# Altium schematic symbol library GL850G-SCH-Library.SchLib: 89 symbols (part 1 of 2)
Pins are listed as number, name and electrical type; pins without a type are passive.

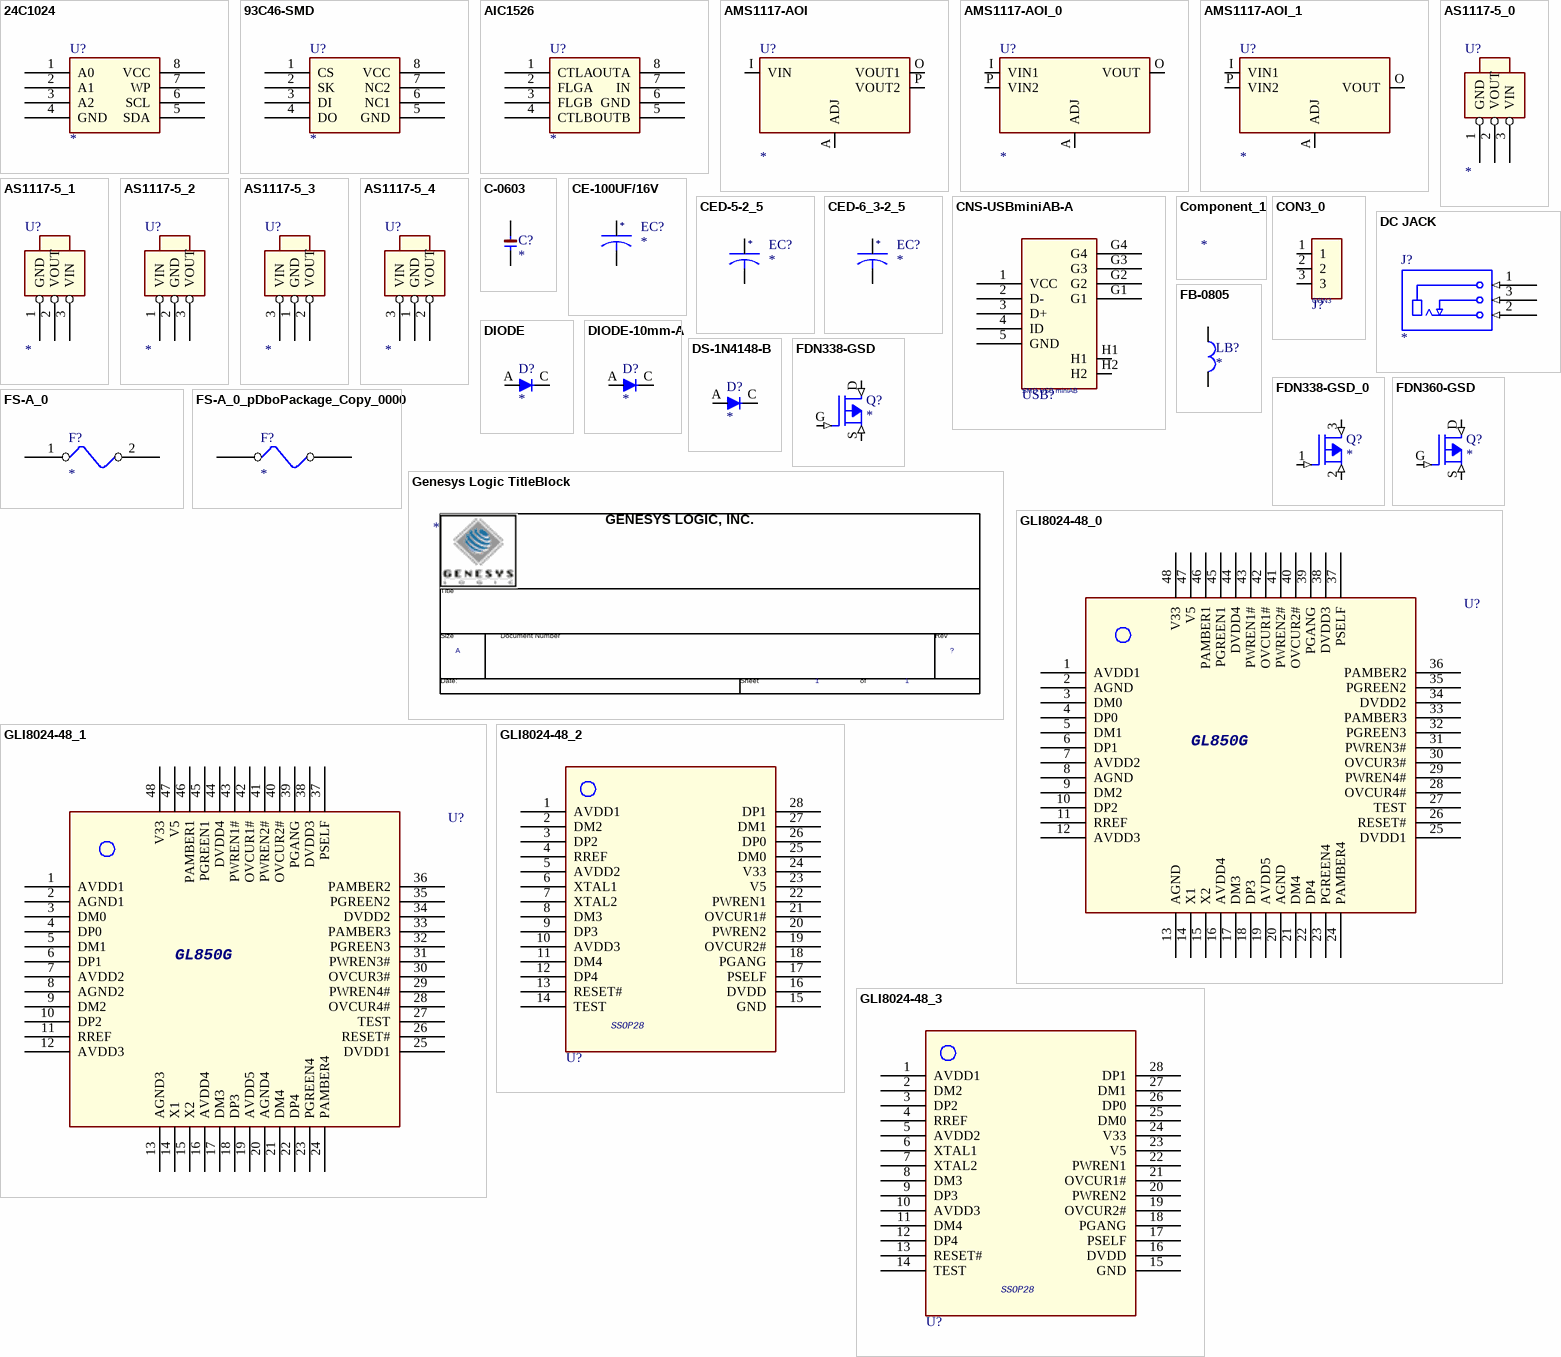
[diagram p0: symbols 24C1024 to GLI8024-48_3]

## 24C1024
designator U?
pins: 1 A0, 2 A1, 3 A2, 4 GND (power), 5 SDA, 6 SCL, 7 WP, 8 VCC (power)

## 93C46-SMD
designator U?
footprint I-SOP8-1_27A
pins: 1 CS, 2 SK, 3 DI, 4 DO, 5 GND, 6 NC1, 7 NC2, 8 VCC

## AIC1526
designator U?
footprint I-SOP8-1_27A
pins: 1 CTLA, 2 FLGA, 3 FLGB, 4 CTLB, 5 OUTB, 6 GND, 7 IN, 8 OUTA

## AMS1117-AOI
designator U?
footprint I-SOT223-AOI-A
pins: A ADJ, I VIN, O VOUT1, P VOUT2

## AMS1117-AOI_0
designator U?
footprint I-SOT223-AOI-A
pins: A ADJ, I VIN1, O VOUT, P VIN2

## AMS1117-AOI_1
designator U?
footprint I-SOT223-AOI-A
pins: A ADJ, I VIN1, O VOUT, P VIN2

## AS1117-5_0
designator U?
pins: 1 GND, 2 VOUT, 3 VIN

## AS1117-5_1
designator U?
pins: 1 GND, 2 VOUT, 3 VIN

## AS1117-5_2
designator U?
pins: 1 VIN, 2 GND, 3 VOUT

## AS1117-5_3
designator U?
pins: 1 GND, 2 VOUT, 3 VIN

## AS1117-5_4
designator U?
pins: 1 GND, 2 VOUT, 3 VIN

## C-0603
designator C?
footprint CCS-0603
pins: 1, 2

## CE-100UF/16V
designator EC?
footprint CED-6_3-2_5
pins: 1, 2
text: +

## CED-5-2_5
designator EC?
footprint CED-5-2_5
pins: 1, 2
text: +

## CED-6_3-2_5
designator EC?
footprint CED-6_3-2_5
pins: 1, 2
text: +

## CNS-USBminiAB-A
designator USB?, comment SMD USB miniAB
footprint CNS-USBminiAB-A
pins: 1 VCC, 2 D-, 3 D+, 4 ID, 5 GND, G1, G2, G3, G4, H1, H2

## Component_1
designator *  (value not drawn)

## CON3_0
designator J?, comment CON3
pins: 1, 2, 3

## DC JACK
designator J?
footprint CND-DCJ-A
pins: 1 1S (in), 2 3T (in), 3 2TS (in)

## DIODE
designator D?
pins: A 1, C 2

## DIODE-10mm-A
designator D?
footprint DD-10-A
pins: A 1, C 2

## DS-1N4148-B
designator D?
footprint DS-1N4148-B
pins: A 1, C 2

## FB-0805
designator LB?
footprint LBS-0805
pins: 1, 2

## FDN338-GSD
designator Q?
footprint T-SOT23-GSD-A
pins: D DRAIN (in), G GATE (in), S SOURCE (in)

## FDN338-GSD_0
designator Q?
footprint T-SOT23-GSD-A
pins: 1 GATE (in), 2 SOURCE (in), 3 DRAIN (in)

## FDN360-GSD
designator Q?
footprint T-SOT23-GSD-A
pins: D DRAIN (in), G GATE (in), S SOURCE (in)

## FS-A_0
designator F?
footprint FS-A
pins: 1, 2

## FS-A_0_pDboPackage_Copy_0000
designator F?
footprint FS-A
pins: 1, 2

## Genesys Logic TitleBlock
designator *  Page Size: A  Page Number: 1  (graphical)
Page Create Date: March  8, 1995; RevCode: ?; Page Count: 1
text: GENESYS LOGIC, INC.; Title; Size; Document Number; Rev; Date:; Sheet; of

## GLI8024-48_0
designator U?, comment GL850A-LQFP48  (value not drawn)
pins: 1 AVDD1, 2 AGND, 3 DM0, 4 DP0, 5 DM1, 6 DP1, 7 AVDD2, 8 AGND, 9 DM2, 10 DP2, 11 RREF, 12 AVDD3, 13 AGND, 14 X1, 15 X2, 16 AVDD4, 17 DM3, 18 DP3, 19 AVDD5, 20 AGND, 21 DM4, 22 DP4, 23 PGREEN4, 24 PAMBER4, 25 DVDD1, 26 RESET#, 27 TEST, 28 OVCUR4#, 29 PWREN4#, 30 OVCUR3#, 31 PWREN3#, 32 PGREEN3, 33 PAMBER3, 34 DVDD2, 35 PGREEN2, 36 PAMBER2, 37 PSELF, 38 DVDD3, 39 PGANG, 40 OVCUR2#, 41 PWREN2#, 42 OVCUR1#, 43 PWREN1#, 44 DVDD4, 45 PGREEN1, 46 PAMBER1, 47 V5, 48 V33
text: GL850G

## GLI8024-48_1
designator U?, comment GL850A-LQFP48  (value not drawn)
pins: 1 AVDD1, 2 AGND1, 3 DM0, 4 DP0, 5 DM1, 6 DP1, 7 AVDD2, 8 AGND2, 9 DM2, 10 DP2, 11 RREF, 12 AVDD3, 13 AGND3, 14 X1, 15 X2, 16 AVDD4, 17 DM3, 18 DP3, 19 AVDD5, 20 AGND4, 21 DM4, 22 DP4, 23 PGREEN4, 24 PAMBER4, 25 DVDD1, 26 RESET#, 27 TEST, 28 OVCUR4#, 29 PWREN4#, 30 OVCUR3#, 31 PWREN3#, 32 PGREEN3, 33 PAMBER3, 34 DVDD2, 35 PGREEN2, 36 PAMBER2, 37 PSELF, 38 DVDD3, 39 PGANG, 40 OVCUR2#, 41 PWREN2#, 42 OVCUR1#, 43 PWREN1#, 44 DVDD4, 45 PGREEN1, 46 PAMBER1, 47 V5, 48 V33
text: GL850G

## GLI8024-48_2
designator U?, comment GL850A-LQFP48  (value not drawn)
pins: 1 AVDD1, 2 DM2, 3 DP2, 4 RREF, 5 AVDD2, 6 XTAL1, 7 XTAL2, 8 DM3, 9 DP3, 10 AVDD3, 11 DM4, 12 DP4, 13 RESET#, 14 TEST, 15 GND, 16 DVDD, 17 PSELF, 18 PGANG, 19 OVCUR2#, 20 PWREN2, 21 OVCUR1#, 22 PWREN1, 23 V5, 24 V33, 25 DM0, 26 DP0, 27 DM1, 28 DP1
text: SSOP28

## GLI8024-48_3
designator U?, comment GL850A-LQFP48  (value not drawn)
pins: 1 AVDD1, 2 DM2, 3 DP2, 4 RREF, 5 AVDD2, 6 XTAL1, 7 XTAL2, 8 DM3, 9 DP3, 10 AVDD3, 11 DM4, 12 DP4, 13 RESET#, 14 TEST, 15 GND, 16 DVDD, 17 PSELF, 18 PGANG, 19 OVCUR2#, 20 PWREN2, 21 OVCUR1#, 22 PWREN1, 23 V5, 24 V33, 25 DM0, 26 DP0, 27 DM1, 28 DP1
text: SSOP28

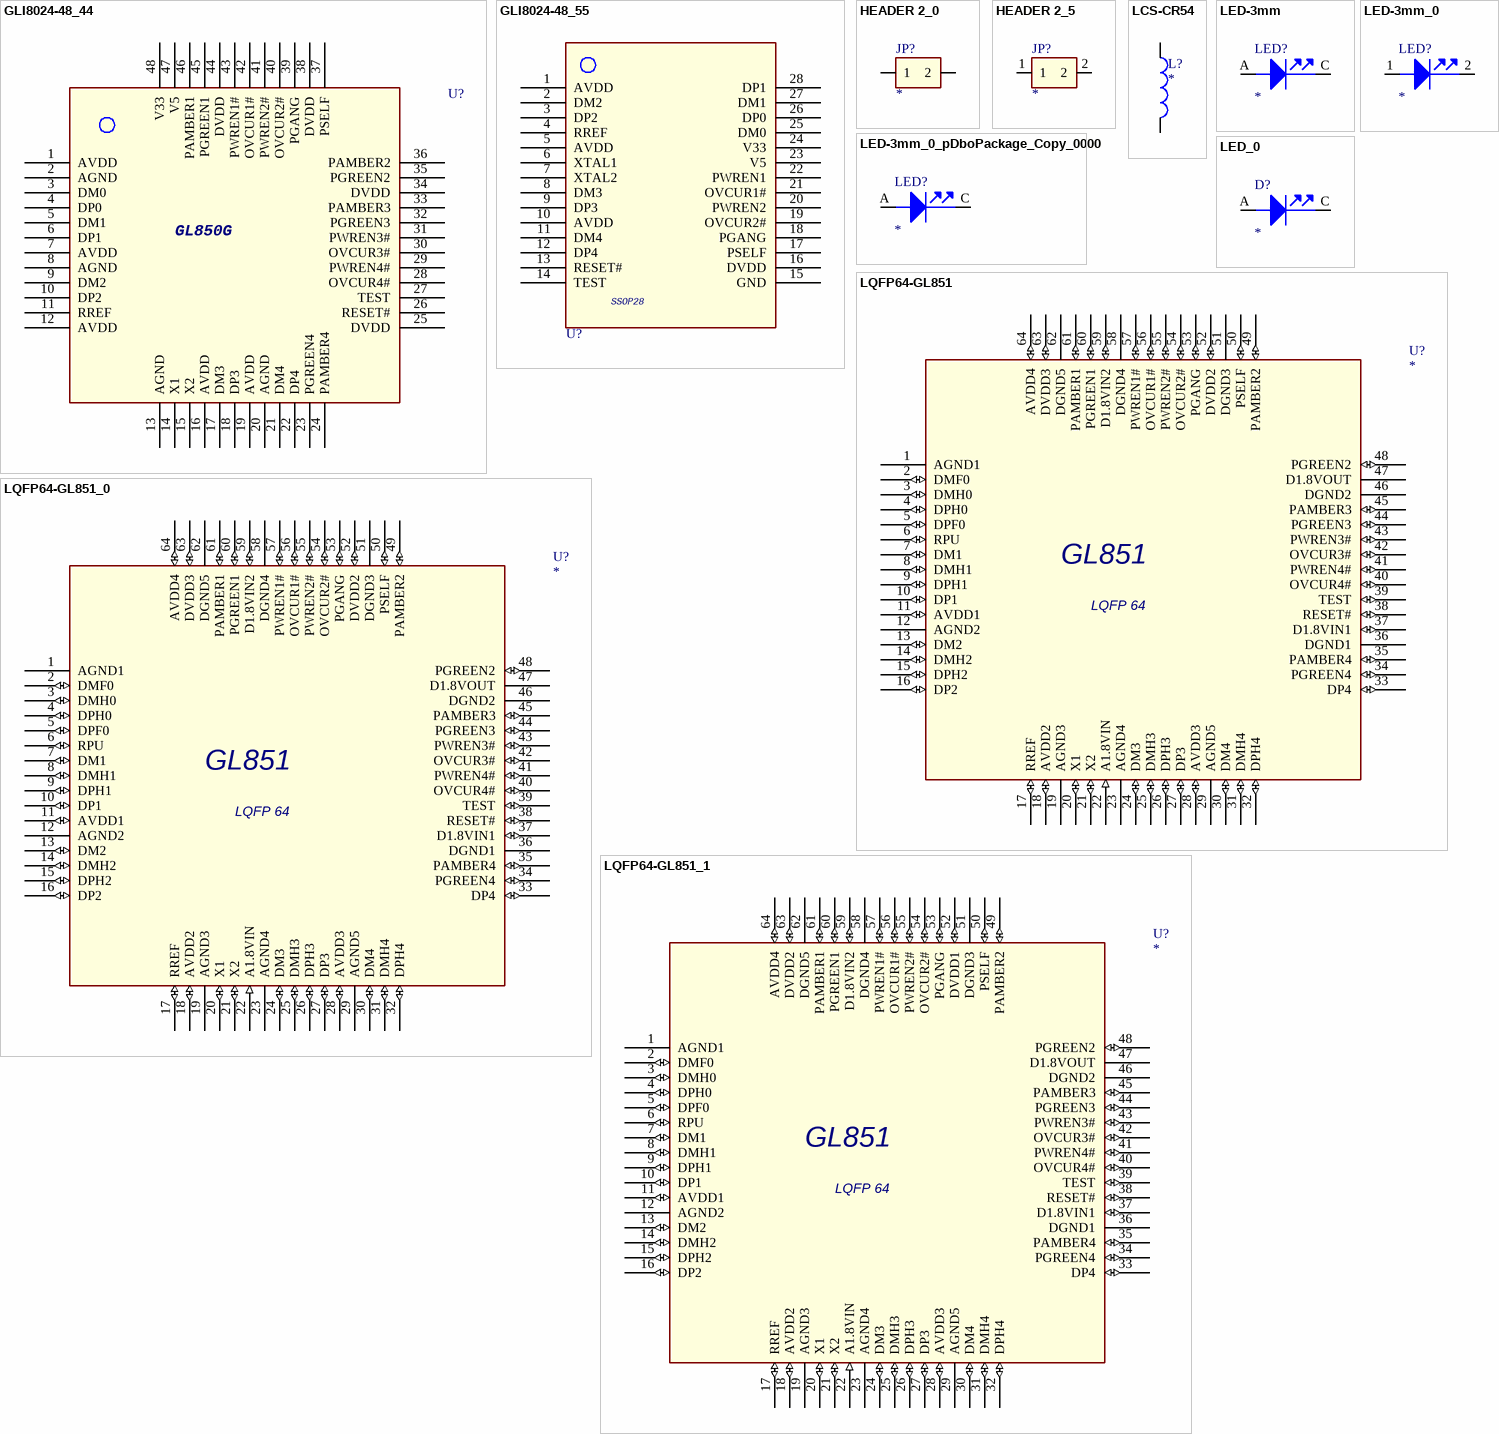
[diagram p1: symbols GLI8024-48_44 to LQFP64-GL851_1]

## GLI8024-48_44
designator U?, comment GL850A-LQFP48  (value not drawn)
pins: 1 AVDD, 2 AGND, 3 DM0, 4 DP0, 5 DM1, 6 DP1, 7 AVDD, 8 AGND, 9 DM2, 10 DP2, 11 RREF, 12 AVDD, 13 AGND, 14 X1, 15 X2, 16 AVDD, 17 DM3, 18 DP3, 19 AVDD, 20 AGND, 21 DM4, 22 DP4, 23 PGREEN4, 24 PAMBER4, 25 DVDD, 26 RESET#, 27 TEST, 28 OVCUR4#, 29 PWREN4#, 30 OVCUR3#, 31 PWREN3#, 32 PGREEN3, 33 PAMBER3, 34 DVDD, 35 PGREEN2, 36 PAMBER2, 37 PSELF, 38 DVDD, 39 PGANG, 40 OVCUR2#, 41 PWREN2#, 42 OVCUR1#, 43 PWREN1#, 44 DVDD, 45 PGREEN1, 46 PAMBER1, 47 V5, 48 V33
text: GL850G

## GLI8024-48_55
designator U?, comment GL850A-LQFP48  (value not drawn)
pins: 1 AVDD, 2 DM2, 3 DP2, 4 RREF, 5 AVDD, 6 XTAL1, 7 XTAL2, 8 DM3, 9 DP3, 10 AVDD, 11 DM4, 12 DP4, 13 RESET#, 14 TEST, 15 GND, 16 DVDD, 17 PSELF, 18 PGANG, 19 OVCUR2#, 20 PWREN2, 21 OVCUR1#, 22 PWREN1, 23 V5, 24 V33, 25 DM0, 26 DP0, 27 DM1, 28 DP1
text: SSOP28

## HEADER 2_0
designator JP?
pins: 1, 2

## HEADER 2_5
designator JP?
pins: 1, 2

## LCS-CR54
designator L?
footprint LCS-CR54
pins: 1, 2

## LED-3mm
designator LED?
footprint LED
pins: A 1, C 2

## LED-3mm_0
designator LED?
footprint LED
pins: 1, 2

## LED-3mm_0_pDboPackage_Copy_0000
designator LED?
footprint LED
pins: A 1, C 2

## LED_0
designator D?
pins: A, C

## LQFP64-GL851
designator U?
footprint I-LQFP64-0_5A
pins: 1 AGND1 (power), 2 DMF0 (io), 3 DMH0 (io), 4 DPH0 (io), 5 DPF0 (io), 6 RPU (io), 7 DM1 (io), 8 DMH1 (io), 9 DPH1 (io), 10 DP1 (io), 11 AVDD1 (io), 12 AGND2 (power), 13 DM2 (io), 14 DMH2 (io), 15 DPH2 (io), 16 DP2 (io), 17 RREF (io), 18 AVDD2 (io), 19 AGND3 (power), 20 X1 (io), 21 X2 (io), 22 A1.8VIN (in), 23 AGND4 (power), 24 DM3 (io), 25 DMH3 (io), 26 DPH3 (io), 27 DP3 (io), 28 AVDD3 (io), 29 AGND5 (power), 30 DM4 (io), 31 DMH4 (io), 32 DPH4 (io), 33 DP4 (io), 34 PGREEN4 (io), 35 PAMBER4 (io), 36 DGND1 (power), 37 D1.8VIN1 (io), 38 RESET# (io), 39 TEST (io), 40 OVCUR4# (io), 41 PWREN4# (io), 42 OVCUR3# (io), 43 PWREN3# (io), 44 PGREEN3 (io), 45 PAMBER3 (io), 46 DGND2 (power), 47 D1.8VOUT, 48 PGREEN2 (io), 49 PAMBER2 (io), 50 PSELF (io), 51 DGND3 (power), 52 DVDD2 (io), 53 PGANG (io), 54 OVCUR2# (io), 55 PWREN2# (io), 56 OVCUR1# (io), 57 PWREN1# (io), 58 DGND4 (power), 59 D1.8VIN2 (io), 60 PGREEN1 (io), 61 PAMBER1 (io), 62 DGND5 (power), 63 DVDD3 (io), 64 AVDD4 (io)
text: GL851; LQFP 64

## LQFP64-GL851_0
designator U?
footprint I-LQFP64-0_5A
pins: 1 AGND1 (power), 2 DMF0 (io), 3 DMH0 (io), 4 DPH0 (io), 5 DPF0 (io), 6 RPU (io), 7 DM1 (io), 8 DMH1 (io), 9 DPH1 (io), 10 DP1 (io), 11 AVDD1 (io), 12 AGND2 (power), 13 DM2 (io), 14 DMH2 (io), 15 DPH2 (io), 16 DP2 (io), 17 RREF (io), 18 AVDD2 (io), 19 AGND3 (power), 20 X1 (io), 21 X2 (io), 22 A1.8VIN (in), 23 AGND4 (power), 24 DM3 (io), 25 DMH3 (io), 26 DPH3 (io), 27 DP3 (io), 28 AVDD3 (io), 29 AGND5 (power), 30 DM4 (io), 31 DMH4 (io), 32 DPH4 (io), 33 DP4 (io), 34 PGREEN4 (io), 35 PAMBER4 (io), 36 DGND1 (power), 37 D1.8VIN1 (io), 38 RESET# (io), 39 TEST (io), 40 OVCUR4# (io), 41 PWREN4# (io), 42 OVCUR3# (io), 43 PWREN3# (io), 44 PGREEN3 (io), 45 PAMBER3 (io), 46 DGND2 (power), 47 D1.8VOUT, 48 PGREEN2 (io), 49 PAMBER2 (io), 50 PSELF (io), 51 DGND3 (power), 52 DVDD2 (io), 53 PGANG (io), 54 OVCUR2# (io), 55 PWREN2# (io), 56 OVCUR1# (io), 57 PWREN1# (io), 58 DGND4 (power), 59 D1.8VIN2 (io), 60 PGREEN1 (io), 61 PAMBER1 (io), 62 DGND5 (power), 63 DVDD3 (io), 64 AVDD4 (io)
text: GL851; LQFP 64

## LQFP64-GL851_1
designator U?
footprint I-LQFP64-0_5A
pins: 1 AGND1 (power), 2 DMF0 (io), 3 DMH0 (io), 4 DPH0 (io), 5 DPF0 (io), 6 RPU (io), 7 DM1 (io), 8 DMH1 (io), 9 DPH1 (io), 10 DP1 (io), 11 AVDD1 (io), 12 AGND2 (power), 13 DM2 (io), 14 DMH2 (io), 15 DPH2 (io), 16 DP2 (io), 17 RREF (io), 18 AVDD2 (io), 19 AGND3 (power), 20 X1 (io), 21 X2 (io), 22 A1.8VIN (in), 23 AGND4 (power), 24 DM3 (io), 25 DMH3 (io), 26 DPH3 (io), 27 DP3 (io), 28 AVDD3 (io), 29 AGND5 (power), 30 DM4 (io), 31 DMH4 (io), 32 DPH4 (io), 33 DP4 (io), 34 PGREEN4 (io), 35 PAMBER4 (io), 36 DGND1 (power), 37 D1.8VIN1 (io), 38 RESET# (io), 39 TEST (io), 40 OVCUR4# (io), 41 PWREN4# (io), 42 OVCUR3# (io), 43 PWREN3# (io), 44 PGREEN3 (io), 45 PAMBER3 (io), 46 DGND2 (power), 47 D1.8VOUT, 48 PGREEN2 (io), 49 PAMBER2 (io), 50 PSELF (io), 51 DGND3 (power), 52 DVDD1 (io), 53 PGANG (io), 54 OVCUR2# (io), 55 PWREN2# (io), 56 OVCUR1# (io), 57 PWREN1# (io), 58 DGND4 (power), 59 D1.8VIN2 (io), 60 PGREEN1 (io), 61 PAMBER1 (io), 62 DGND5 (power), 63 DVDD2 (io), 64 AVDD4 (io)
text: GL851; LQFP 64

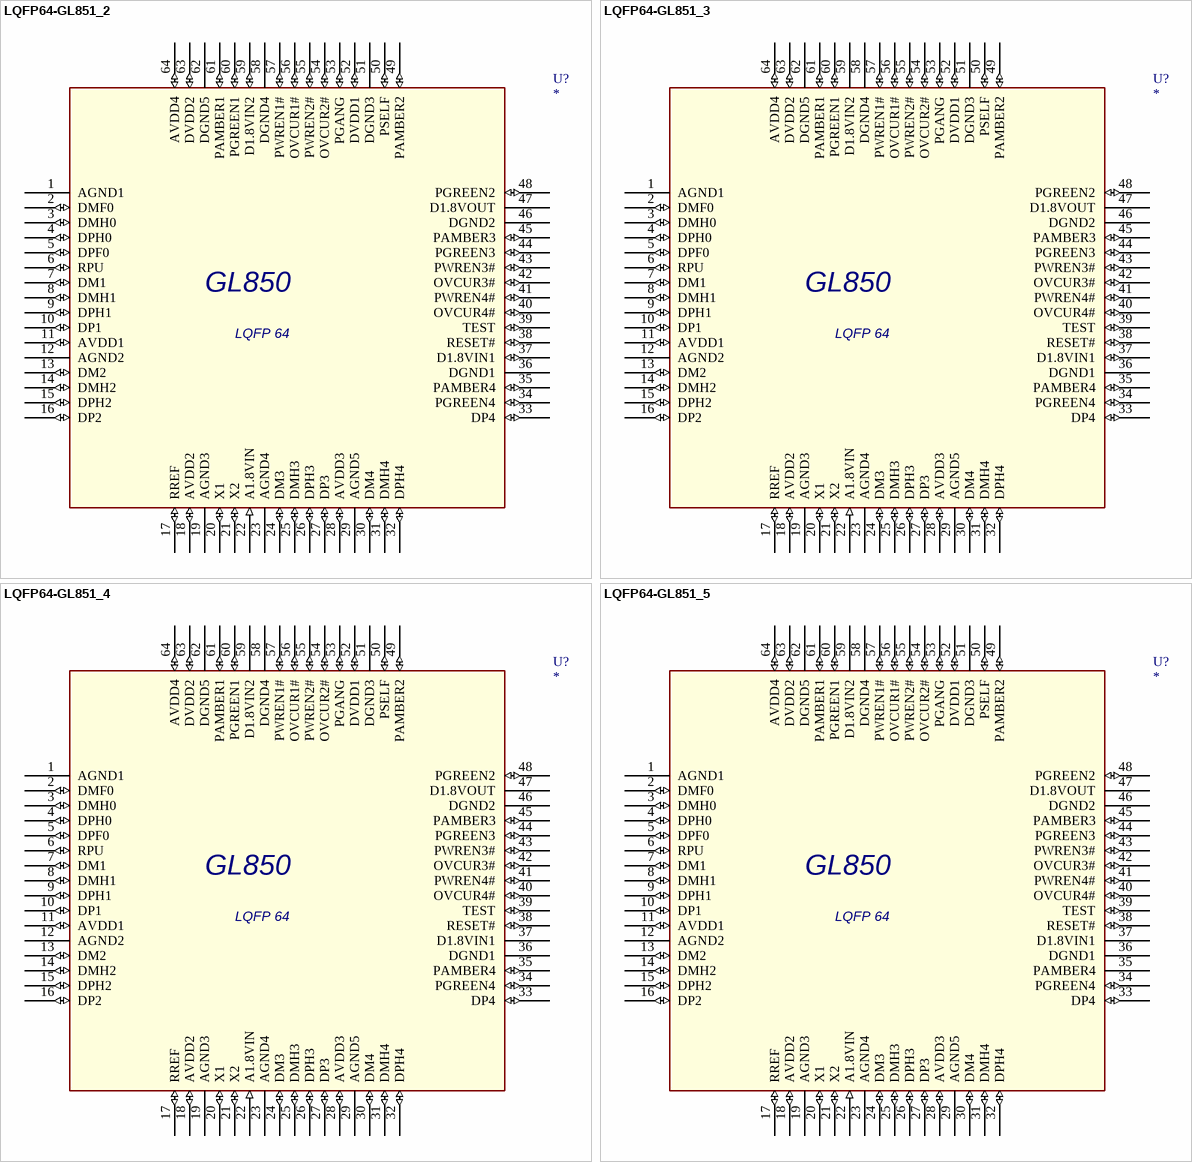
[diagram p2: symbols LQFP64-GL851_2 to LQFP64-GL851_5]

## LQFP64-GL851_2
designator U?
footprint I-LQFP64-0_5A
pins: 1 AGND1 (power), 2 DMF0 (io), 3 DMH0 (io), 4 DPH0 (io), 5 DPF0 (io), 6 RPU (io), 7 DM1 (io), 8 DMH1 (io), 9 DPH1 (io), 10 DP1 (io), 11 AVDD1 (io), 12 AGND2 (power), 13 DM2 (io), 14 DMH2 (io), 15 DPH2 (io), 16 DP2 (io), 17 RREF (io), 18 AVDD2 (io), 19 AGND3 (power), 20 X1 (io), 21 X2 (io), 22 A1.8VIN (in), 23 AGND4 (power), 24 DM3 (io), 25 DMH3 (io), 26 DPH3 (io), 27 DP3 (io), 28 AVDD3 (io), 29 AGND5 (power), 30 DM4 (io), 31 DMH4 (io), 32 DPH4 (io), 33 DP4 (io), 34 PGREEN4 (io), 35 PAMBER4 (io), 36 DGND1 (power), 37 D1.8VIN1 (io), 38 RESET# (io), 39 TEST (io), 40 OVCUR4# (io), 41 PWREN4# (io), 42 OVCUR3# (io), 43 PWREN3# (io), 44 PGREEN3 (io), 45 PAMBER3 (io), 46 DGND2 (power), 47 D1.8VOUT, 48 PGREEN2 (io), 49 PAMBER2 (io), 50 PSELF (io), 51 DGND3 (power), 52 DVDD1 (io), 53 PGANG (io), 54 OVCUR2# (io), 55 PWREN2# (io), 56 OVCUR1# (io), 57 PWREN1# (io), 58 DGND4 (power), 59 D1.8VIN2 (io), 60 PGREEN1 (io), 61 PAMBER1 (io), 62 DGND5 (power), 63 DVDD2 (io), 64 AVDD4 (io)
text: GL850; LQFP 64

## LQFP64-GL851_3
designator U?
footprint I-LQFP64-0_5A
pins: 1 AGND1 (power), 2 DMF0 (io), 3 DMH0 (io), 4 DPH0 (io), 5 DPF0 (io), 6 RPU (io), 7 DM1 (io), 8 DMH1 (io), 9 DPH1 (io), 10 DP1 (io), 11 AVDD1 (io), 12 AGND2 (power), 13 DM2 (io), 14 DMH2 (io), 15 DPH2 (io), 16 DP2 (io), 17 RREF (io), 18 AVDD2 (io), 19 AGND3 (power), 20 X1 (io), 21 X2 (io), 22 A1.8VIN (in), 23 AGND4 (power), 24 DM3 (io), 25 DMH3 (io), 26 DPH3 (io), 27 DP3 (io), 28 AVDD3 (io), 29 AGND5 (power), 30 DM4 (io), 31 DMH4 (io), 32 DPH4 (io), 33 DP4 (io), 34 PGREEN4 (io), 35 PAMBER4 (io), 36 DGND1 (power), 37 D1.8VIN1 (io), 38 RESET# (io), 39 TEST (io), 40 OVCUR4# (io), 41 PWREN4# (io), 42 OVCUR3# (io), 43 PWREN3# (io), 44 PGREEN3 (io), 45 PAMBER3 (io), 46 DGND2 (power), 47 D1.8VOUT, 48 PGREEN2 (io), 49 PAMBER2 (io), 50 PSELF (io), 51 DGND3 (power), 52 DVDD1 (io), 53 PGANG (io), 54 OVCUR2# (io), 55 PWREN2# (io), 56 OVCUR1# (io), 57 PWREN1# (io), 58 DGND4 (power), 59 D1.8VIN2, 60 PGREEN1 (io), 61 PAMBER1 (io), 62 DGND5 (power), 63 DVDD2 (io), 64 AVDD4 (io)
text: GL850; LQFP 64

## LQFP64-GL851_4
designator U?
footprint I-LQFP64-0_5A
pins: 1 AGND1 (power), 2 DMF0 (io), 3 DMH0 (io), 4 DPH0 (io), 5 DPF0 (io), 6 RPU (io), 7 DM1 (io), 8 DMH1 (io), 9 DPH1 (io), 10 DP1 (io), 11 AVDD1 (io), 12 AGND2 (power), 13 DM2 (io), 14 DMH2 (io), 15 DPH2 (io), 16 DP2 (io), 17 RREF (io), 18 AVDD2 (io), 19 AGND3 (power), 20 X1 (io), 21 X2 (io), 22 A1.8VIN (in), 23 AGND4 (power), 24 DM3 (io), 25 DMH3 (io), 26 DPH3 (io), 27 DP3 (io), 28 AVDD3 (io), 29 AGND5 (power), 30 DM4 (io), 31 DMH4 (io), 32 DPH4 (io), 33 DP4 (io), 34 PGREEN4 (io), 35 PAMBER4 (io), 36 DGND1 (power), 37 D1.8VIN1, 38 RESET# (io), 39 TEST (io), 40 OVCUR4# (io), 41 PWREN4# (io), 42 OVCUR3# (io), 43 PWREN3# (io), 44 PGREEN3 (io), 45 PAMBER3 (io), 46 DGND2 (power), 47 D1.8VOUT, 48 PGREEN2 (io), 49 PAMBER2 (io), 50 PSELF (io), 51 DGND3 (power), 52 DVDD1 (io), 53 PGANG (io), 54 OVCUR2# (io), 55 PWREN2# (io), 56 OVCUR1# (io), 57 PWREN1# (io), 58 DGND4 (power), 59 D1.8VIN2, 60 PGREEN1 (io), 61 PAMBER1 (io), 62 DGND5 (power), 63 DVDD2 (io), 64 AVDD4 (io)
text: GL850; LQFP 64

## LQFP64-GL851_5
designator U?
footprint I-LQFP64-0_5A
pins: 1 AGND1 (power), 2 DMF0 (io), 3 DMH0 (io), 4 DPH0 (io), 5 DPF0 (io), 6 RPU (io), 7 DM1 (io), 8 DMH1 (io), 9 DPH1 (io), 10 DP1 (io), 11 AVDD1 (io), 12 AGND2 (power), 13 DM2 (io), 14 DMH2 (io), 15 DPH2 (io), 16 DP2 (io), 17 RREF (io), 18 AVDD2 (io), 19 AGND3 (power), 20 X1 (io), 21 X2 (io), 22 A1.8VIN (in), 23 AGND4 (power), 24 DM3 (io), 25 DMH3 (io), 26 DPH3 (io), 27 DP3 (io), 28 AVDD3 (io), 29 AGND5 (power), 30 DM4 (io), 31 DMH4 (io), 32 DPH4 (io), 33 DP4 (io), 34 PGREEN4 (io), 35 PAMBER4, 36 DGND1 (power), 37 D1.8VIN1, 38 RESET# (io), 39 TEST (io), 40 OVCUR4# (io), 41 PWREN4# (io), 42 OVCUR3# (io), 43 PWREN3# (io), 44 PGREEN3 (io), 45 PAMBER3 (io), 46 DGND2 (power), 47 D1.8VOUT, 48 PGREEN2 (io), 49 PAMBER2 (io), 50 PSELF (io), 51 DGND3 (power), 52 DVDD1 (io), 53 PGANG (io), 54 OVCUR2# (io), 55 PWREN2# (io), 56 OVCUR1# (io), 57 PWREN1# (io), 58 DGND4 (power), 59 D1.8VIN2, 60 PGREEN1 (io), 61 PAMBER1 (io), 62 DGND5 (power), 63 DVDD2 (io), 64 AVDD4 (io)
text: GL850; LQFP 64

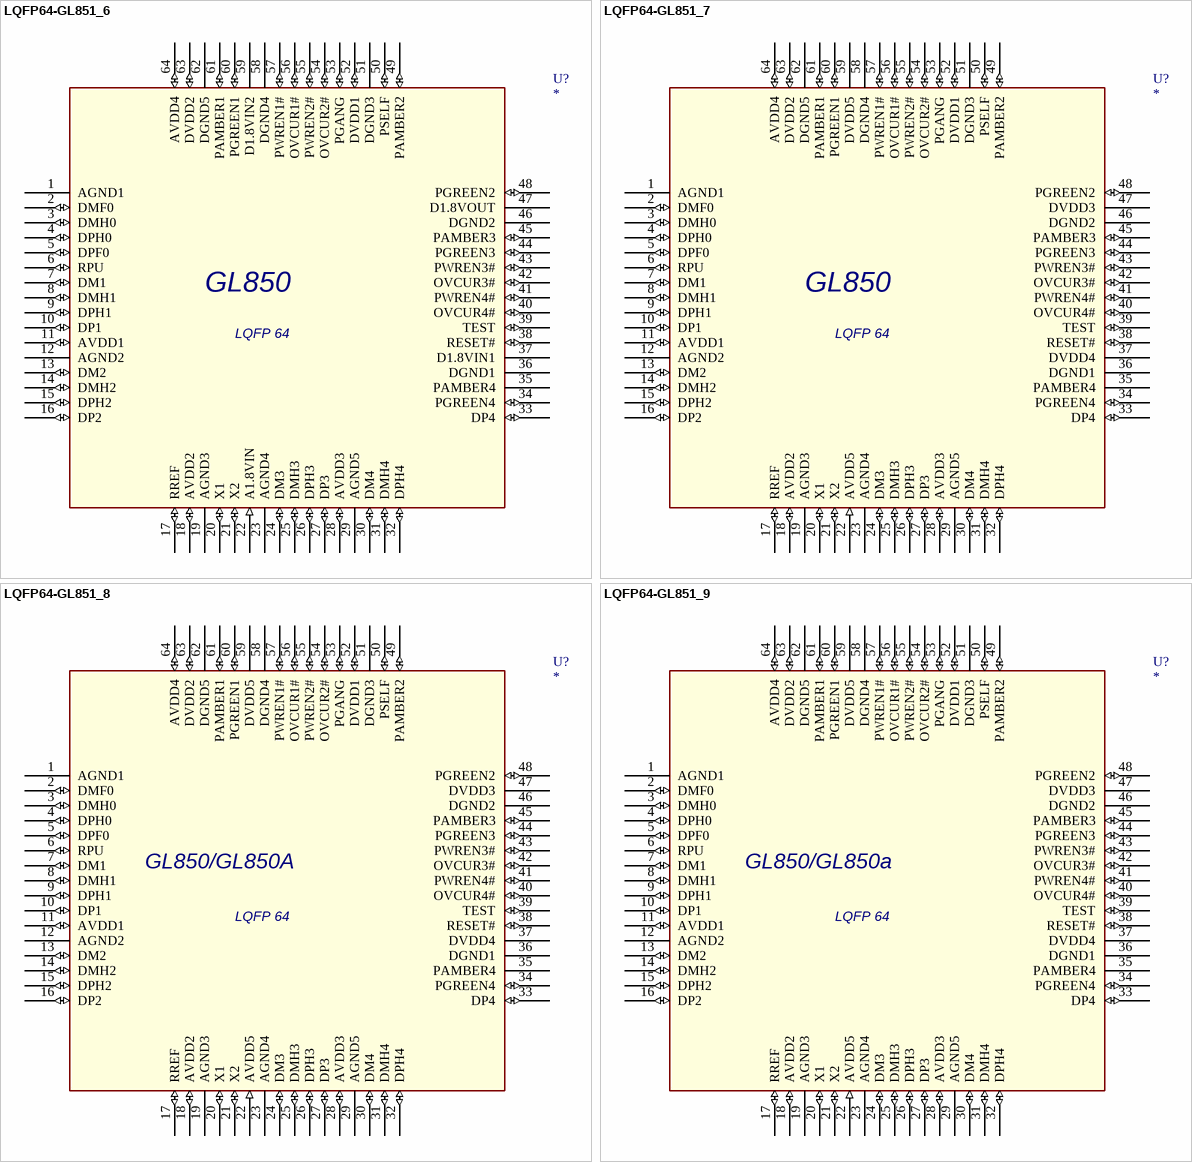
[diagram p3: symbols LQFP64-GL851_6 to LQFP64-GL851_9]

## LQFP64-GL851_6
designator U?
footprint I-LQFP64-0_5A
pins: 1 AGND1 (power), 2 DMF0 (io), 3 DMH0 (io), 4 DPH0 (io), 5 DPF0 (io), 6 RPU (io), 7 DM1 (io), 8 DMH1 (io), 9 DPH1 (io), 10 DP1 (io), 11 AVDD1 (io), 12 AGND2 (power), 13 DM2 (io), 14 DMH2 (io), 15 DPH2 (io), 16 DP2 (io), 17 RREF (io), 18 AVDD2 (io), 19 AGND3 (power), 20 X1 (io), 21 X2 (io), 22 A1.8VIN (in), 23 AGND4 (power), 24 DM3 (io), 25 DMH3 (io), 26 DPH3 (io), 27 DP3 (io), 28 AVDD3 (io), 29 AGND5 (power), 30 DM4 (io), 31 DMH4 (io), 32 DPH4 (io), 33 DP4 (io), 34 PGREEN4 (io), 35 PAMBER4, 36 DGND1 (power), 37 D1.8VIN1, 38 RESET# (io), 39 TEST (io), 40 OVCUR4# (io), 41 PWREN4# (io), 42 OVCUR3# (io), 43 PWREN3# (io), 44 PGREEN3 (io), 45 PAMBER3 (io), 46 DGND2 (power), 47 D1.8VOUT, 48 PGREEN2 (io), 49 PAMBER2 (io), 50 PSELF (io), 51 DGND3 (power), 52 DVDD1 (io), 53 PGANG (io), 54 OVCUR2# (io), 55 PWREN2# (io), 56 OVCUR1# (io), 57 PWREN1# (io), 58 DGND4 (power), 59 D1.8VIN2, 60 PGREEN1 (io), 61 PAMBER1 (io), 62 DGND5 (power), 63 DVDD2 (io), 64 AVDD4 (io)
text: GL850; LQFP 64

## LQFP64-GL851_7
designator U?
footprint I-LQFP64-0_5A
pins: 1 AGND1 (power), 2 DMF0 (io), 3 DMH0 (io), 4 DPH0 (io), 5 DPF0 (io), 6 RPU (io), 7 DM1 (io), 8 DMH1 (io), 9 DPH1 (io), 10 DP1 (io), 11 AVDD1 (io), 12 AGND2 (power), 13 DM2 (io), 14 DMH2 (io), 15 DPH2 (io), 16 DP2 (io), 17 RREF (io), 18 AVDD2 (io), 19 AGND3 (power), 20 X1 (io), 21 X2 (io), 22 AVDD5 (in), 23 AGND4 (power), 24 DM3 (io), 25 DMH3 (io), 26 DPH3 (io), 27 DP3 (io), 28 AVDD3 (io), 29 AGND5 (power), 30 DM4 (io), 31 DMH4 (io), 32 DPH4 (io), 33 DP4 (io), 34 PGREEN4 (io), 35 PAMBER4, 36 DGND1 (power), 37 DVDD4, 38 RESET# (io), 39 TEST (io), 40 OVCUR4# (io), 41 PWREN4# (io), 42 OVCUR3# (io), 43 PWREN3# (io), 44 PGREEN3 (io), 45 PAMBER3 (io), 46 DGND2 (power), 47 DVDD3, 48 PGREEN2 (io), 49 PAMBER2 (io), 50 PSELF (io), 51 DGND3 (power), 52 DVDD1 (io), 53 PGANG (io), 54 OVCUR2# (io), 55 PWREN2# (io), 56 OVCUR1# (io), 57 PWREN1# (io), 58 DGND4 (power), 59 DVDD5, 60 PGREEN1 (io), 61 PAMBER1 (io), 62 DGND5 (power), 63 DVDD2 (io), 64 AVDD4 (io)
text: GL850; LQFP 64

## LQFP64-GL851_8
designator U?
footprint I-LQFP64-0_5A
pins: 1 AGND1 (power), 2 DMF0 (io), 3 DMH0 (io), 4 DPH0 (io), 5 DPF0 (io), 6 RPU (io), 7 DM1 (io), 8 DMH1 (io), 9 DPH1 (io), 10 DP1 (io), 11 AVDD1 (io), 12 AGND2 (power), 13 DM2 (io), 14 DMH2 (io), 15 DPH2 (io), 16 DP2 (io), 17 RREF (io), 18 AVDD2 (io), 19 AGND3 (power), 20 X1 (io), 21 X2 (io), 22 AVDD5 (in), 23 AGND4 (power), 24 DM3 (io), 25 DMH3 (io), 26 DPH3 (io), 27 DP3 (io), 28 AVDD3 (io), 29 AGND5 (power), 30 DM4 (io), 31 DMH4 (io), 32 DPH4 (io), 33 DP4 (io), 34 PGREEN4 (io), 35 PAMBER4, 36 DGND1 (power), 37 DVDD4, 38 RESET# (io), 39 TEST (io), 40 OVCUR4# (io), 41 PWREN4# (io), 42 OVCUR3# (io), 43 PWREN3# (io), 44 PGREEN3 (io), 45 PAMBER3 (io), 46 DGND2 (power), 47 DVDD3, 48 PGREEN2 (io), 49 PAMBER2 (io), 50 PSELF (io), 51 DGND3 (power), 52 DVDD1 (io), 53 PGANG (io), 54 OVCUR2# (io), 55 PWREN2# (io), 56 OVCUR1# (io), 57 PWREN1# (io), 58 DGND4 (power), 59 DVDD5, 60 PGREEN1 (io), 61 PAMBER1 (io), 62 DGND5 (power), 63 DVDD2 (io), 64 AVDD4 (io)
text: GL850/GL850A; LQFP 64

## LQFP64-GL851_9
designator U?
footprint I-LQFP64-0_5A
pins: 1 AGND1 (power), 2 DMF0 (io), 3 DMH0 (io), 4 DPH0 (io), 5 DPF0 (io), 6 RPU (io), 7 DM1 (io), 8 DMH1 (io), 9 DPH1 (io), 10 DP1 (io), 11 AVDD1 (io), 12 AGND2 (power), 13 DM2 (io), 14 DMH2 (io), 15 DPH2 (io), 16 DP2 (io), 17 RREF (io), 18 AVDD2 (io), 19 AGND3 (power), 20 X1 (io), 21 X2 (io), 22 AVDD5 (in), 23 AGND4 (power), 24 DM3 (io), 25 DMH3 (io), 26 DPH3 (io), 27 DP3 (io), 28 AVDD3 (io), 29 AGND5 (power), 30 DM4 (io), 31 DMH4 (io), 32 DPH4 (io), 33 DP4 (io), 34 PGREEN4 (io), 35 PAMBER4, 36 DGND1 (power), 37 DVDD4, 38 RESET# (io), 39 TEST (io), 40 OVCUR4# (io), 41 PWREN4# (io), 42 OVCUR3# (io), 43 PWREN3# (io), 44 PGREEN3 (io), 45 PAMBER3 (io), 46 DGND2 (power), 47 DVDD3, 48 PGREEN2 (io), 49 PAMBER2 (io), 50 PSELF (io), 51 DGND3 (power), 52 DVDD1 (io), 53 PGANG (io), 54 OVCUR2# (io), 55 PWREN2# (io), 56 OVCUR1# (io), 57 PWREN1# (io), 58 DGND4 (power), 59 DVDD5, 60 PGREEN1 (io), 61 PAMBER1 (io), 62 DGND5 (power), 63 DVDD2 (io), 64 AVDD4 (io)
text: GL850/GL850a; LQFP 64

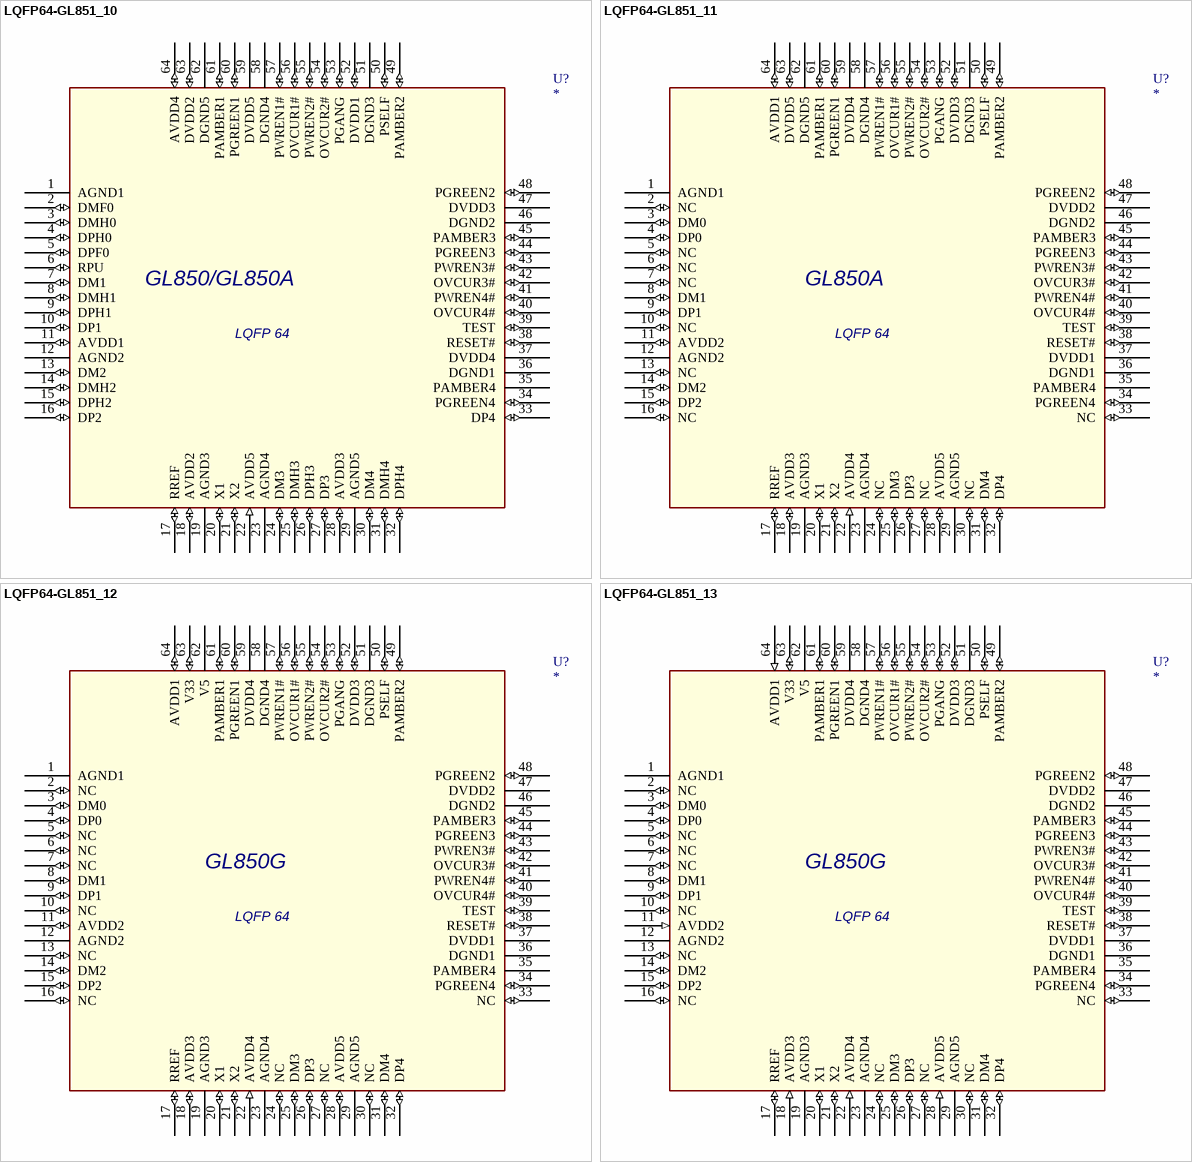
[diagram p4: symbols LQFP64-GL851_10 to LQFP64-GL851_13]

## LQFP64-GL851_10
designator U?
footprint I-LQFP64-0_5A
pins: 1 AGND1 (power), 2 DMF0 (io), 3 DMH0 (io), 4 DPH0 (io), 5 DPF0 (io), 6 RPU (io), 7 DM1 (io), 8 DMH1 (io), 9 DPH1 (io), 10 DP1 (io), 11 AVDD1 (io), 12 AGND2 (power), 13 DM2 (io), 14 DMH2 (io), 15 DPH2 (io), 16 DP2 (io), 17 RREF (io), 18 AVDD2 (io), 19 AGND3 (power), 20 X1 (io), 21 X2 (io), 22 AVDD5 (in), 23 AGND4 (power), 24 DM3 (io), 25 DMH3 (io), 26 DPH3 (io), 27 DP3 (io), 28 AVDD3 (io), 29 AGND5 (power), 30 DM4 (io), 31 DMH4 (io), 32 DPH4 (io), 33 DP4 (io), 34 PGREEN4 (io), 35 PAMBER4, 36 DGND1 (power), 37 DVDD4, 38 RESET# (io), 39 TEST (io), 40 OVCUR4# (io), 41 PWREN4# (io), 42 OVCUR3# (io), 43 PWREN3# (io), 44 PGREEN3 (io), 45 PAMBER3 (io), 46 DGND2 (power), 47 DVDD3, 48 PGREEN2 (io), 49 PAMBER2 (io), 50 PSELF (io), 51 DGND3 (power), 52 DVDD1 (io), 53 PGANG (io), 54 OVCUR2# (io), 55 PWREN2# (io), 56 OVCUR1# (io), 57 PWREN1# (io), 58 DGND4 (power), 59 DVDD5, 60 PGREEN1 (io), 61 PAMBER1 (io), 62 DGND5 (power), 63 DVDD2 (io), 64 AVDD4 (io)
text: GL850/GL850A; LQFP 64

## LQFP64-GL851_11
designator U?
footprint I-LQFP64-0_5A
pins: 1 AGND1 (power), 2 NC (io), 3 DM0 (io), 4 DP0 (io), 5 NC (io), 6 NC (io), 7 NC (io), 8 DM1 (io), 9 DP1 (io), 10 NC (io), 11 AVDD2 (io), 12 AGND2 (power), 13 NC (io), 14 DM2 (io), 15 DP2 (io), 16 NC (io), 17 RREF (io), 18 AVDD3 (io), 19 AGND3 (power), 20 X1 (io), 21 X2 (io), 22 AVDD4 (in), 23 AGND4 (power), 24 NC (io), 25 DM3 (io), 26 DP3 (io), 27 NC (io), 28 AVDD5 (io), 29 AGND5 (power), 30 NC (io), 31 DM4 (io), 32 DP4 (io), 33 NC (io), 34 PGREEN4 (io), 35 PAMBER4, 36 DGND1 (power), 37 DVDD1, 38 RESET# (io), 39 TEST (io), 40 OVCUR4# (io), 41 PWREN4# (io), 42 OVCUR3# (io), 43 PWREN3# (io), 44 PGREEN3 (io), 45 PAMBER3 (io), 46 DGND2 (power), 47 DVDD2, 48 PGREEN2 (io), 49 PAMBER2 (io), 50 PSELF (io), 51 DGND3 (power), 52 DVDD3 (io), 53 PGANG (io), 54 OVCUR2# (io), 55 PWREN2# (io), 56 OVCUR1# (io), 57 PWREN1# (io), 58 DGND4 (power), 59 DVDD4, 60 PGREEN1 (io), 61 PAMBER1 (io), 62 DGND5 (power), 63 DVDD5 (io), 64 AVDD1 (io)
text: GL850A; LQFP 64

## LQFP64-GL851_12
designator U?
footprint I-LQFP64-0_5A
pins: 1 AGND1 (power), 2 NC (io), 3 DM0 (io), 4 DP0 (io), 5 NC (io), 6 NC (io), 7 NC (io), 8 DM1 (io), 9 DP1 (io), 10 NC (io), 11 AVDD2 (io), 12 AGND2 (power), 13 NC (io), 14 DM2 (io), 15 DP2 (io), 16 NC (io), 17 RREF (io), 18 AVDD3 (io), 19 AGND3 (power), 20 X1 (io), 21 X2 (io), 22 AVDD4 (in), 23 AGND4 (power), 24 NC (io), 25 DM3 (io), 26 DP3 (io), 27 NC (io), 28 AVDD5 (io), 29 AGND5 (power), 30 NC (io), 31 DM4 (io), 32 DP4 (io), 33 NC (io), 34 PGREEN4 (io), 35 PAMBER4, 36 DGND1 (power), 37 DVDD1, 38 RESET# (io), 39 TEST (io), 40 OVCUR4# (io), 41 PWREN4# (io), 42 OVCUR3# (io), 43 PWREN3# (io), 44 PGREEN3 (io), 45 PAMBER3 (io), 46 DGND2 (power), 47 DVDD2, 48 PGREEN2 (io), 49 PAMBER2 (io), 50 PSELF (io), 51 DGND3 (power), 52 DVDD3 (io), 53 PGANG (io), 54 OVCUR2# (io), 55 PWREN2# (io), 56 OVCUR1# (io), 57 PWREN1# (io), 58 DGND4 (power), 59 DVDD4, 60 PGREEN1 (io), 61 PAMBER1 (io), 62 V5 (power), 63 V33 (io), 64 AVDD1 (io)
text: GL850G; LQFP 64

## LQFP64-GL851_13
designator U?
footprint I-LQFP64-0_5A
pins: 1 AGND1 (power), 2 NC (io), 3 DM0 (io), 4 DP0 (io), 5 NC (io), 6 NC (io), 7 NC (io), 8 DM1 (io), 9 DP1 (io), 10 NC (io), 11 AVDD2 (in), 12 AGND2 (power), 13 NC (io), 14 DM2 (io), 15 DP2 (io), 16 NC (io), 17 RREF (io), 18 AVDD3 (in), 19 AGND3 (power), 20 X1 (io), 21 X2 (io), 22 AVDD4 (in), 23 AGND4 (power), 24 NC (io), 25 DM3 (io), 26 DP3 (io), 27 NC (io), 28 AVDD5 (in), 29 AGND5 (power), 30 NC (io), 31 DM4 (io), 32 DP4 (io), 33 NC (io), 34 PGREEN4 (io), 35 PAMBER4, 36 DGND1 (power), 37 DVDD1, 38 RESET# (io), 39 TEST (io), 40 OVCUR4# (io), 41 PWREN4# (io), 42 OVCUR3# (io), 43 PWREN3# (io), 44 PGREEN3 (io), 45 PAMBER3 (io), 46 DGND2 (power), 47 DVDD2, 48 PGREEN2 (io), 49 PAMBER2 (io), 50 PSELF (io), 51 DGND3 (power), 52 DVDD3 (io), 53 PGANG (io), 54 OVCUR2# (io), 55 PWREN2# (io), 56 OVCUR1# (io), 57 PWREN1# (io), 58 DGND4 (power), 59 DVDD4, 60 PGREEN1 (io), 61 PAMBER1 (io), 62 V5 (power), 63 V33 (io), 64 AVDD1 (in)
text: GL850G; LQFP 64

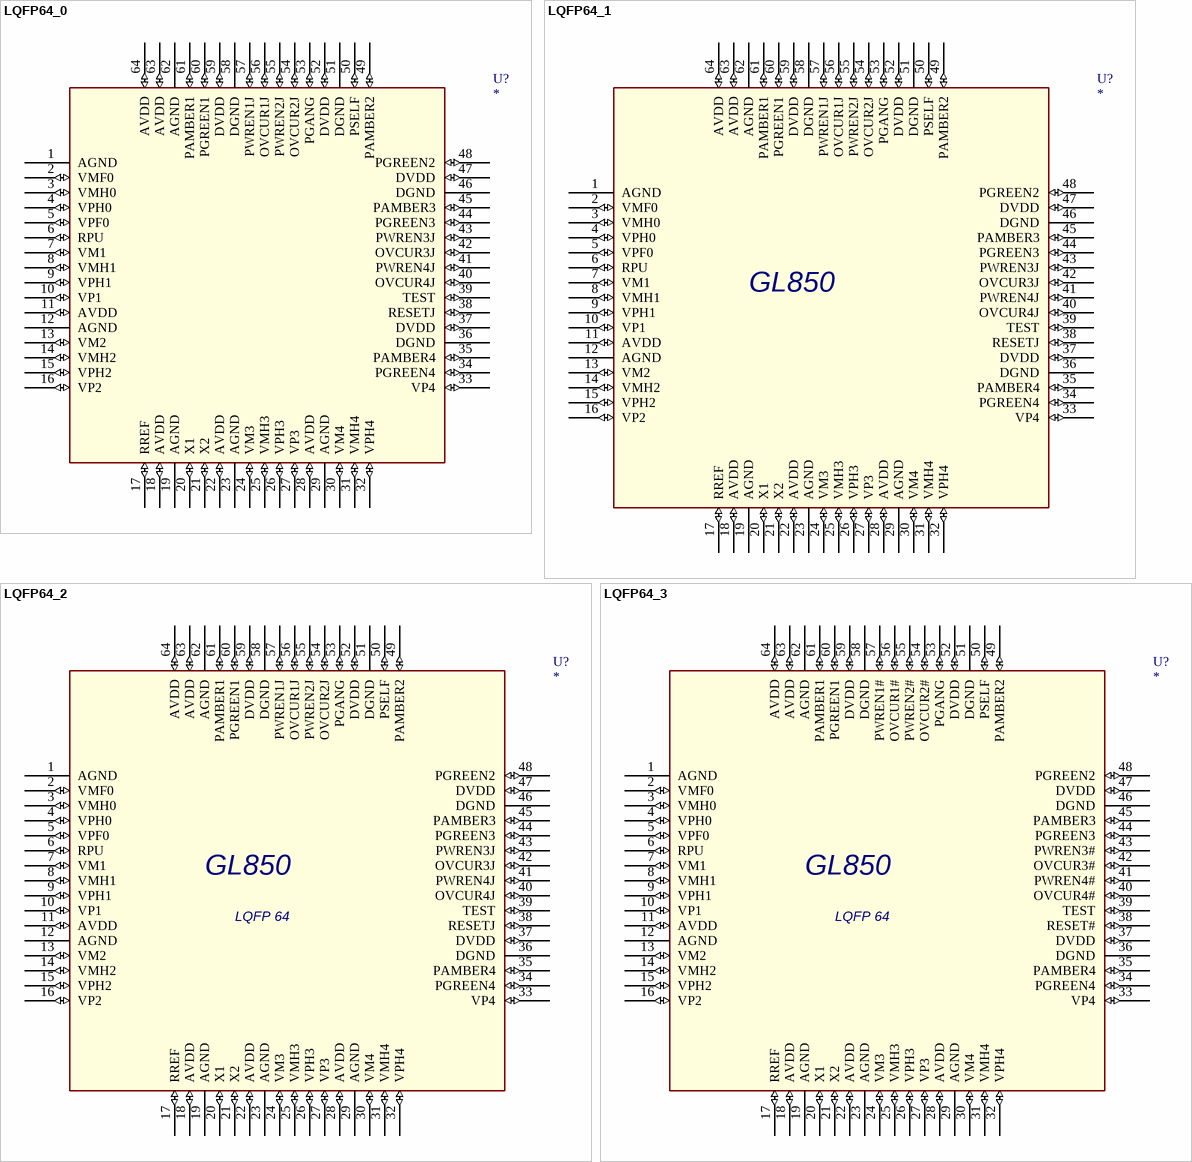
[diagram p5: symbols LQFP64_0 to LQFP64_3]

## LQFP64_0
designator U?
pins: 1 AGND (power), 2 VMF0 (io), 3 VMH0 (io), 4 VPH0 (io), 5 VPF0 (io), 6 RPU (io), 7 VM1 (io), 8 VMH1 (io), 9 VPH1 (io), 10 VP1 (io), 11 AVDD (io), 12 AGND (power), 13 VM2 (io), 14 VMH2 (io), 15 VPH2 (io), 16 VP2 (io), 17 RREF (io), 18 AVDD (io), 19 AGND (power), 20 X1 (io), 21 X2 (io), 22 AVDD (io), 23 AGND (power), 24 VM3 (io), 25 VMH3 (io), 26 VPH3 (io), 27 VP3 (io), 28 AVDD (io), 29 AGND (power), 30 VM4 (io), 31 VMH4 (io), 32 VPH4 (io), 33 VP4 (io), 34 PGREEN4 (io), 35 PAMBER4 (io), 36 DGND (power), 37 DVDD (io), 38 RESETJ (io), 39 TEST (io), 40 OVCUR4J (io), 41 PWREN4J (io), 42 OVCUR3J (io), 43 PWREN3J (io), 44 PGREEN3 (io), 45 PAMBER3 (io), 46 DGND (power), 47 DVDD (io), 48 PGREEN2 (io), 49 PAMBER2 (io), 50 PSELF (io), 51 DGND (power), 52 DVDD (io), 53 PGANG (io), 54 OVCUR2J (io), 55 PWREN2J (io), 56 OVCUR1J (io), 57 PWREN1J (io), 58 DGND (power), 59 DVDD (io), 60 PGREEN1 (io), 61 PAMBER1 (io), 62 AGND (power), 63 AVDD (io), 64 AVDD (io)

## LQFP64_1
designator U?
pins: 1 AGND (power), 2 VMF0 (io), 3 VMH0 (io), 4 VPH0 (io), 5 VPF0 (io), 6 RPU (io), 7 VM1 (io), 8 VMH1 (io), 9 VPH1 (io), 10 VP1 (io), 11 AVDD (io), 12 AGND (power), 13 VM2 (io), 14 VMH2 (io), 15 VPH2 (io), 16 VP2 (io), 17 RREF (io), 18 AVDD (io), 19 AGND (power), 20 X1 (io), 21 X2 (io), 22 AVDD (io), 23 AGND (power), 24 VM3 (io), 25 VMH3 (io), 26 VPH3 (io), 27 VP3 (io), 28 AVDD (io), 29 AGND (power), 30 VM4 (io), 31 VMH4 (io), 32 VPH4 (io), 33 VP4 (io), 34 PGREEN4 (io), 35 PAMBER4 (io), 36 DGND (power), 37 DVDD (io), 38 RESETJ (io), 39 TEST (io), 40 OVCUR4J (io), 41 PWREN4J (io), 42 OVCUR3J (io), 43 PWREN3J (io), 44 PGREEN3 (io), 45 PAMBER3 (io), 46 DGND (power), 47 DVDD (io), 48 PGREEN2 (io), 49 PAMBER2 (io), 50 PSELF (io), 51 DGND (power), 52 DVDD (io), 53 PGANG (io), 54 OVCUR2J (io), 55 PWREN2J (io), 56 OVCUR1J (io), 57 PWREN1J (io), 58 DGND (power), 59 DVDD (io), 60 PGREEN1 (io), 61 PAMBER1 (io), 62 AGND (power), 63 AVDD (io), 64 AVDD (io)
text: GL850

## LQFP64_2
designator U?
pins: 1 AGND (power), 2 VMF0 (io), 3 VMH0 (io), 4 VPH0 (io), 5 VPF0 (io), 6 RPU (io), 7 VM1 (io), 8 VMH1 (io), 9 VPH1 (io), 10 VP1 (io), 11 AVDD (io), 12 AGND (power), 13 VM2 (io), 14 VMH2 (io), 15 VPH2 (io), 16 VP2 (io), 17 RREF (io), 18 AVDD (io), 19 AGND (power), 20 X1 (io), 21 X2 (io), 22 AVDD (io), 23 AGND (power), 24 VM3 (io), 25 VMH3 (io), 26 VPH3 (io), 27 VP3 (io), 28 AVDD (io), 29 AGND (power), 30 VM4 (io), 31 VMH4 (io), 32 VPH4 (io), 33 VP4 (io), 34 PGREEN4 (io), 35 PAMBER4 (io), 36 DGND (power), 37 DVDD (io), 38 RESETJ (io), 39 TEST (io), 40 OVCUR4J (io), 41 PWREN4J (io), 42 OVCUR3J (io), 43 PWREN3J (io), 44 PGREEN3 (io), 45 PAMBER3 (io), 46 DGND (power), 47 DVDD (io), 48 PGREEN2 (io), 49 PAMBER2 (io), 50 PSELF (io), 51 DGND (power), 52 DVDD (io), 53 PGANG (io), 54 OVCUR2J (io), 55 PWREN2J (io), 56 OVCUR1J (io), 57 PWREN1J (io), 58 DGND (power), 59 DVDD (io), 60 PGREEN1 (io), 61 PAMBER1 (io), 62 AGND (power), 63 AVDD (io), 64 AVDD (io)
text: GL850; LQFP 64

## LQFP64_3
designator U?
pins: 1 AGND (power), 2 VMF0 (io), 3 VMH0 (io), 4 VPH0 (io), 5 VPF0 (io), 6 RPU (io), 7 VM1 (io), 8 VMH1 (io), 9 VPH1 (io), 10 VP1 (io), 11 AVDD (io), 12 AGND (power), 13 VM2 (io), 14 VMH2 (io), 15 VPH2 (io), 16 VP2 (io), 17 RREF (io), 18 AVDD (io), 19 AGND (power), 20 X1 (io), 21 X2 (io), 22 AVDD (io), 23 AGND (power), 24 VM3 (io), 25 VMH3 (io), 26 VPH3 (io), 27 VP3 (io), 28 AVDD (io), 29 AGND (power), 30 VM4 (io), 31 VMH4 (io), 32 VPH4 (io), 33 VP4 (io), 34 PGREEN4 (io), 35 PAMBER4 (io), 36 DGND (power), 37 DVDD (io), 38 RESET# (io), 39 TEST (io), 40 OVCUR4# (io), 41 PWREN4# (io), 42 OVCUR3# (io), 43 PWREN3# (io), 44 PGREEN3 (io), 45 PAMBER3 (io), 46 DGND (power), 47 DVDD (io), 48 PGREEN2 (io), 49 PAMBER2 (io), 50 PSELF (io), 51 DGND (power), 52 DVDD (io), 53 PGANG (io), 54 OVCUR2# (io), 55 PWREN2# (io), 56 OVCUR1# (io), 57 PWREN1# (io), 58 DGND (power), 59 DVDD (io), 60 PGREEN1 (io), 61 PAMBER1 (io), 62 AGND (power), 63 AVDD (io), 64 AVDD (io)
text: GL850; LQFP 64

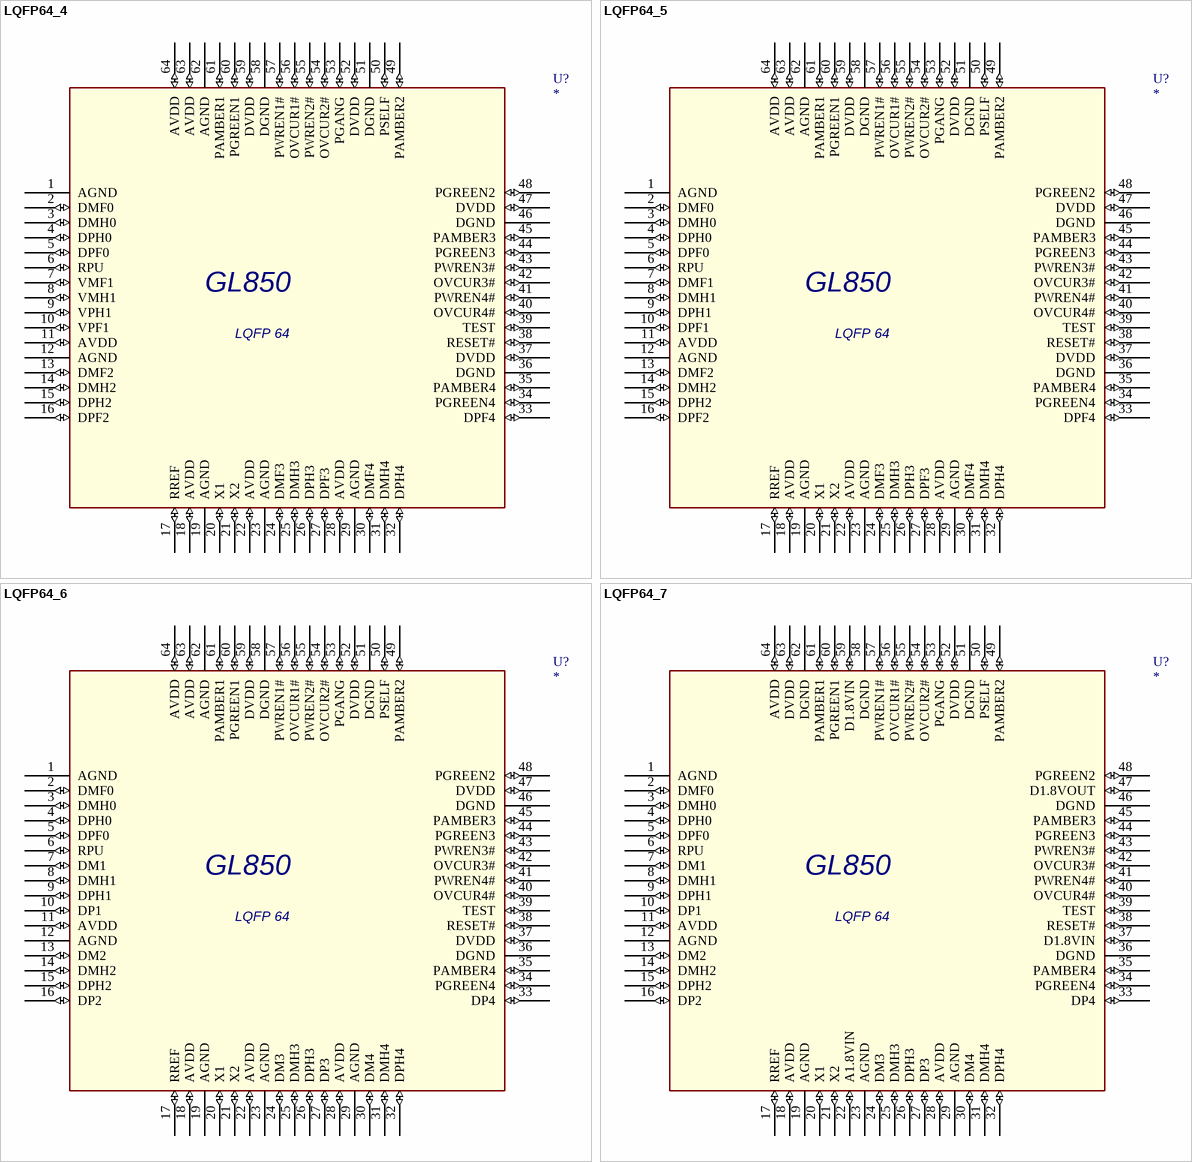
[diagram p6: symbols LQFP64_4 to LQFP64_7]

## LQFP64_4
designator U?
pins: 1 AGND (power), 2 DMF0 (io), 3 DMH0 (io), 4 DPH0 (io), 5 DPF0 (io), 6 RPU (io), 7 VMF1 (io), 8 VMH1 (io), 9 VPH1 (io), 10 VPF1 (io), 11 AVDD (io), 12 AGND (power), 13 DMF2 (io), 14 DMH2 (io), 15 DPH2 (io), 16 DPF2 (io), 17 RREF (io), 18 AVDD (io), 19 AGND (power), 20 X1 (io), 21 X2 (io), 22 AVDD (io), 23 AGND (power), 24 DMF3 (io), 25 DMH3 (io), 26 DPH3 (io), 27 DPF3 (io), 28 AVDD (io), 29 AGND (power), 30 DMF4 (io), 31 DMH4 (io), 32 DPH4 (io), 33 DPF4 (io), 34 PGREEN4 (io), 35 PAMBER4 (io), 36 DGND (power), 37 DVDD (io), 38 RESET# (io), 39 TEST (io), 40 OVCUR4# (io), 41 PWREN4# (io), 42 OVCUR3# (io), 43 PWREN3# (io), 44 PGREEN3 (io), 45 PAMBER3 (io), 46 DGND (power), 47 DVDD (io), 48 PGREEN2 (io), 49 PAMBER2 (io), 50 PSELF (io), 51 DGND (power), 52 DVDD (io), 53 PGANG (io), 54 OVCUR2# (io), 55 PWREN2# (io), 56 OVCUR1# (io), 57 PWREN1# (io), 58 DGND (power), 59 DVDD (io), 60 PGREEN1 (io), 61 PAMBER1 (io), 62 AGND (power), 63 AVDD (io), 64 AVDD (io)
text: GL850; LQFP 64

## LQFP64_5
designator U?
pins: 1 AGND (power), 2 DMF0 (io), 3 DMH0 (io), 4 DPH0 (io), 5 DPF0 (io), 6 RPU (io), 7 DMF1 (io), 8 DMH1 (io), 9 DPH1 (io), 10 DPF1 (io), 11 AVDD (io), 12 AGND (power), 13 DMF2 (io), 14 DMH2 (io), 15 DPH2 (io), 16 DPF2 (io), 17 RREF (io), 18 AVDD (io), 19 AGND (power), 20 X1 (io), 21 X2 (io), 22 AVDD (io), 23 AGND (power), 24 DMF3 (io), 25 DMH3 (io), 26 DPH3 (io), 27 DPF3 (io), 28 AVDD (io), 29 AGND (power), 30 DMF4 (io), 31 DMH4 (io), 32 DPH4 (io), 33 DPF4 (io), 34 PGREEN4 (io), 35 PAMBER4 (io), 36 DGND (power), 37 DVDD (io), 38 RESET# (io), 39 TEST (io), 40 OVCUR4# (io), 41 PWREN4# (io), 42 OVCUR3# (io), 43 PWREN3# (io), 44 PGREEN3 (io), 45 PAMBER3 (io), 46 DGND (power), 47 DVDD (io), 48 PGREEN2 (io), 49 PAMBER2 (io), 50 PSELF (io), 51 DGND (power), 52 DVDD (io), 53 PGANG (io), 54 OVCUR2# (io), 55 PWREN2# (io), 56 OVCUR1# (io), 57 PWREN1# (io), 58 DGND (power), 59 DVDD (io), 60 PGREEN1 (io), 61 PAMBER1 (io), 62 AGND (power), 63 AVDD (io), 64 AVDD (io)
text: GL850; LQFP 64

## LQFP64_6
designator U?
pins: 1 AGND (power), 2 DMF0 (io), 3 DMH0 (io), 4 DPH0 (io), 5 DPF0 (io), 6 RPU (io), 7 DM1 (io), 8 DMH1 (io), 9 DPH1 (io), 10 DP1 (io), 11 AVDD (io), 12 AGND (power), 13 DM2 (io), 14 DMH2 (io), 15 DPH2 (io), 16 DP2 (io), 17 RREF (io), 18 AVDD (io), 19 AGND (power), 20 X1 (io), 21 X2 (io), 22 AVDD (io), 23 AGND (power), 24 DM3 (io), 25 DMH3 (io), 26 DPH3 (io), 27 DP3 (io), 28 AVDD (io), 29 AGND (power), 30 DM4 (io), 31 DMH4 (io), 32 DPH4 (io), 33 DP4 (io), 34 PGREEN4 (io), 35 PAMBER4 (io), 36 DGND (power), 37 DVDD (io), 38 RESET# (io), 39 TEST (io), 40 OVCUR4# (io), 41 PWREN4# (io), 42 OVCUR3# (io), 43 PWREN3# (io), 44 PGREEN3 (io), 45 PAMBER3 (io), 46 DGND (power), 47 DVDD (io), 48 PGREEN2 (io), 49 PAMBER2 (io), 50 PSELF (io), 51 DGND (power), 52 DVDD (io), 53 PGANG (io), 54 OVCUR2# (io), 55 PWREN2# (io), 56 OVCUR1# (io), 57 PWREN1# (io), 58 DGND (power), 59 DVDD (io), 60 PGREEN1 (io), 61 PAMBER1 (io), 62 AGND (power), 63 AVDD (io), 64 AVDD (io)
text: GL850; LQFP 64

## LQFP64_7
designator U?
pins: 1 AGND (power), 2 DMF0 (io), 3 DMH0 (io), 4 DPH0 (io), 5 DPF0 (io), 6 RPU (io), 7 DM1 (io), 8 DMH1 (io), 9 DPH1 (io), 10 DP1 (io), 11 AVDD (io), 12 AGND (power), 13 DM2 (io), 14 DMH2 (io), 15 DPH2 (io), 16 DP2 (io), 17 RREF (io), 18 AVDD (io), 19 AGND (power), 20 X1 (io), 21 X2 (io), 22 A1.8VIN (io), 23 AGND (power), 24 DM3 (io), 25 DMH3 (io), 26 DPH3 (io), 27 DP3 (io), 28 AVDD (io), 29 AGND (power), 30 DM4 (io), 31 DMH4 (io), 32 DPH4 (io), 33 DP4 (io), 34 PGREEN4 (io), 35 PAMBER4 (io), 36 DGND (power), 37 D1.8VIN (io), 38 RESET# (io), 39 TEST (io), 40 OVCUR4# (io), 41 PWREN4# (io), 42 OVCUR3# (io), 43 PWREN3# (io), 44 PGREEN3 (io), 45 PAMBER3 (io), 46 DGND (power), 47 D1.8VOUT (io), 48 PGREEN2 (io), 49 PAMBER2 (io), 50 PSELF (io), 51 DGND (power), 52 DVDD (io), 53 PGANG (io), 54 OVCUR2# (io), 55 PWREN2# (io), 56 OVCUR1# (io), 57 PWREN1# (io), 58 DGND (power), 59 D1.8VIN (io), 60 PGREEN1 (io), 61 PAMBER1 (io), 62 DGND (power), 63 DVDD (io), 64 AVDD (io)
text: GL850; LQFP 64

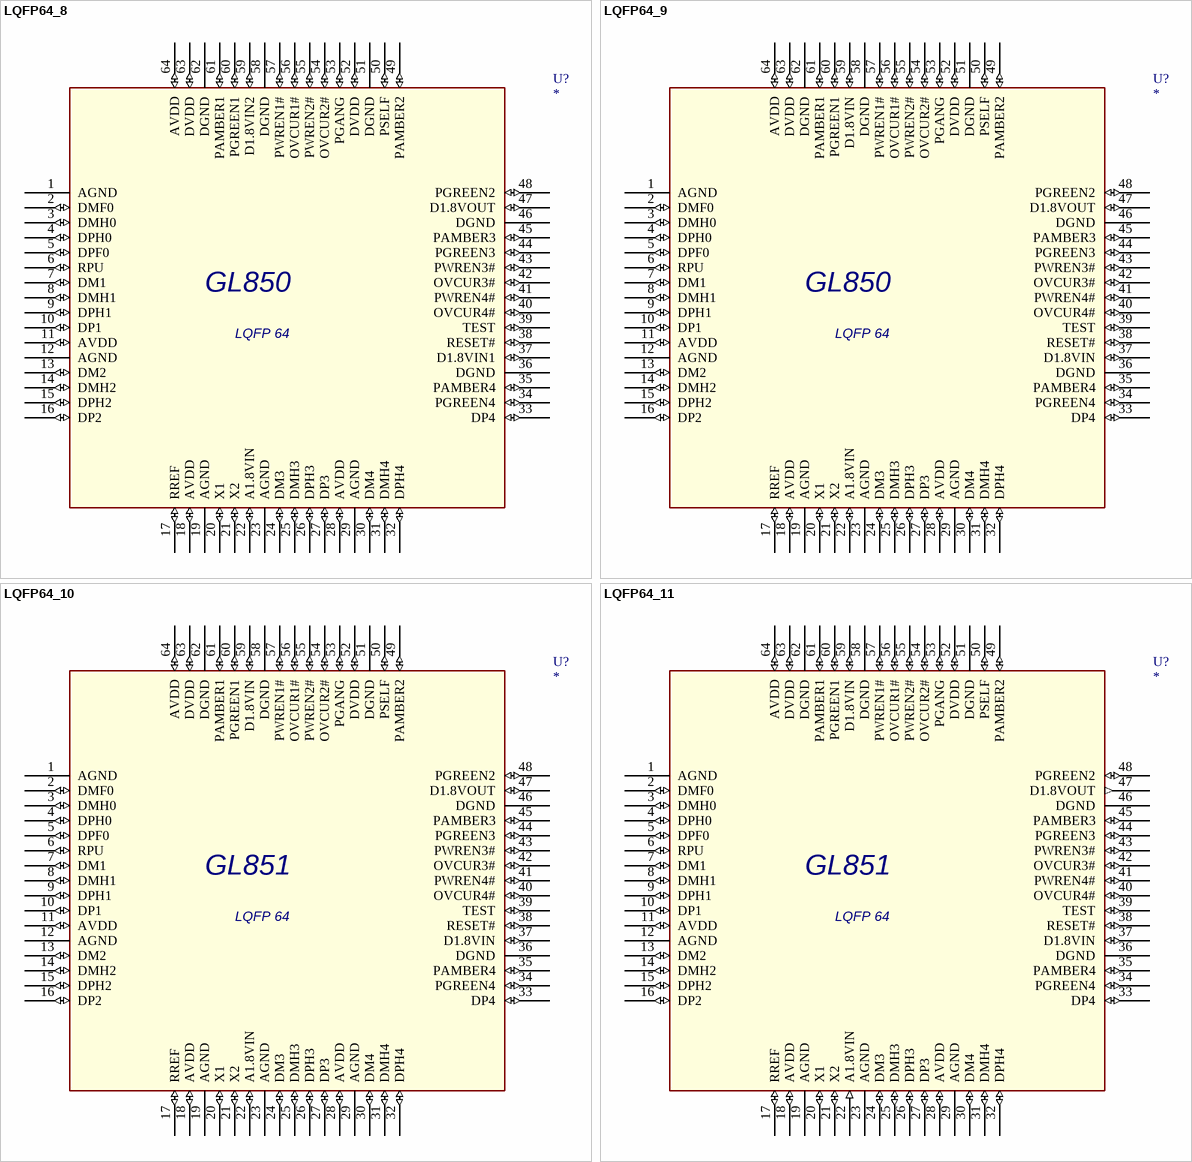
[diagram p7: symbols LQFP64_8 to LQFP64_11]

## LQFP64_8
designator U?
pins: 1 AGND (power), 2 DMF0 (io), 3 DMH0 (io), 4 DPH0 (io), 5 DPF0 (io), 6 RPU (io), 7 DM1 (io), 8 DMH1 (io), 9 DPH1 (io), 10 DP1 (io), 11 AVDD (io), 12 AGND (power), 13 DM2 (io), 14 DMH2 (io), 15 DPH2 (io), 16 DP2 (io), 17 RREF (io), 18 AVDD (io), 19 AGND (power), 20 X1 (io), 21 X2 (io), 22 A1.8VIN (io), 23 AGND (power), 24 DM3 (io), 25 DMH3 (io), 26 DPH3 (io), 27 DP3 (io), 28 AVDD (io), 29 AGND (power), 30 DM4 (io), 31 DMH4 (io), 32 DPH4 (io), 33 DP4 (io), 34 PGREEN4 (io), 35 PAMBER4 (io), 36 DGND (power), 37 D1.8VIN1 (io), 38 RESET# (io), 39 TEST (io), 40 OVCUR4# (io), 41 PWREN4# (io), 42 OVCUR3# (io), 43 PWREN3# (io), 44 PGREEN3 (io), 45 PAMBER3 (io), 46 DGND (power), 47 D1.8VOUT (io), 48 PGREEN2 (io), 49 PAMBER2 (io), 50 PSELF (io), 51 DGND (power), 52 DVDD (io), 53 PGANG (io), 54 OVCUR2# (io), 55 PWREN2# (io), 56 OVCUR1# (io), 57 PWREN1# (io), 58 DGND (power), 59 D1.8VIN2 (io), 60 PGREEN1 (io), 61 PAMBER1 (io), 62 DGND (power), 63 DVDD (io), 64 AVDD (io)
text: GL850; LQFP 64

## LQFP64_9
designator U?
pins: 1 AGND (power), 2 DMF0 (io), 3 DMH0 (io), 4 DPH0 (io), 5 DPF0 (io), 6 RPU (io), 7 DM1 (io), 8 DMH1 (io), 9 DPH1 (io), 10 DP1 (io), 11 AVDD (io), 12 AGND (power), 13 DM2 (io), 14 DMH2 (io), 15 DPH2 (io), 16 DP2 (io), 17 RREF (io), 18 AVDD (io), 19 AGND (power), 20 X1 (io), 21 X2 (io), 22 A1.8VIN (io), 23 AGND (power), 24 DM3 (io), 25 DMH3 (io), 26 DPH3 (io), 27 DP3 (io), 28 AVDD (io), 29 AGND (power), 30 DM4 (io), 31 DMH4 (io), 32 DPH4 (io), 33 DP4 (io), 34 PGREEN4 (io), 35 PAMBER4 (io), 36 DGND (power), 37 D1.8VIN (io), 38 RESET# (io), 39 TEST (io), 40 OVCUR4# (io), 41 PWREN4# (io), 42 OVCUR3# (io), 43 PWREN3# (io), 44 PGREEN3 (io), 45 PAMBER3 (io), 46 DGND (power), 47 D1.8VOUT (io), 48 PGREEN2 (io), 49 PAMBER2 (io), 50 PSELF (io), 51 DGND (power), 52 DVDD (io), 53 PGANG (io), 54 OVCUR2# (io), 55 PWREN2# (io), 56 OVCUR1# (io), 57 PWREN1# (io), 58 DGND (power), 59 D1.8VIN (io), 60 PGREEN1 (io), 61 PAMBER1 (io), 62 DGND (power), 63 DVDD (io), 64 AVDD (io)
text: GL850; LQFP 64

## LQFP64_10
designator U?
pins: 1 AGND (power), 2 DMF0 (io), 3 DMH0 (io), 4 DPH0 (io), 5 DPF0 (io), 6 RPU (io), 7 DM1 (io), 8 DMH1 (io), 9 DPH1 (io), 10 DP1 (io), 11 AVDD (io), 12 AGND (power), 13 DM2 (io), 14 DMH2 (io), 15 DPH2 (io), 16 DP2 (io), 17 RREF (io), 18 AVDD (io), 19 AGND (power), 20 X1 (io), 21 X2 (io), 22 A1.8VIN (io), 23 AGND (power), 24 DM3 (io), 25 DMH3 (io), 26 DPH3 (io), 27 DP3 (io), 28 AVDD (io), 29 AGND (power), 30 DM4 (io), 31 DMH4 (io), 32 DPH4 (io), 33 DP4 (io), 34 PGREEN4 (io), 35 PAMBER4 (io), 36 DGND (power), 37 D1.8VIN (io), 38 RESET# (io), 39 TEST (io), 40 OVCUR4# (io), 41 PWREN4# (io), 42 OVCUR3# (io), 43 PWREN3# (io), 44 PGREEN3 (io), 45 PAMBER3 (io), 46 DGND (power), 47 D1.8VOUT (io), 48 PGREEN2 (io), 49 PAMBER2 (io), 50 PSELF (io), 51 DGND (power), 52 DVDD (io), 53 PGANG (io), 54 OVCUR2# (io), 55 PWREN2# (io), 56 OVCUR1# (io), 57 PWREN1# (io), 58 DGND (power), 59 D1.8VIN (io), 60 PGREEN1 (io), 61 PAMBER1 (io), 62 DGND (power), 63 DVDD (io), 64 AVDD (io)
text: GL851; LQFP 64

## LQFP64_11
designator U?
pins: 1 AGND (power), 2 DMF0 (io), 3 DMH0 (io), 4 DPH0 (io), 5 DPF0 (io), 6 RPU (io), 7 DM1 (io), 8 DMH1 (io), 9 DPH1 (io), 10 DP1 (io), 11 AVDD (io), 12 AGND (power), 13 DM2 (io), 14 DMH2 (io), 15 DPH2 (io), 16 DP2 (io), 17 RREF (io), 18 AVDD (io), 19 AGND (power), 20 X1 (io), 21 X2 (io), 22 A1.8VIN (in), 23 AGND (power), 24 DM3 (io), 25 DMH3 (io), 26 DPH3 (io), 27 DP3 (io), 28 AVDD (io), 29 AGND (power), 30 DM4 (io), 31 DMH4 (io), 32 DPH4 (io), 33 DP4 (io), 34 PGREEN4 (io), 35 PAMBER4 (io), 36 DGND (power), 37 D1.8VIN (io), 38 RESET# (io), 39 TEST (io), 40 OVCUR4# (io), 41 PWREN4# (io), 42 OVCUR3# (io), 43 PWREN3# (io), 44 PGREEN3 (io), 45 PAMBER3 (io), 46 DGND (power), 47 D1.8VOUT (out), 48 PGREEN2 (io), 49 PAMBER2 (io), 50 PSELF (io), 51 DGND (power), 52 DVDD (io), 53 PGANG (io), 54 OVCUR2# (io), 55 PWREN2# (io), 56 OVCUR1# (io), 57 PWREN1# (io), 58 DGND (power), 59 D1.8VIN (io), 60 PGREEN1 (io), 61 PAMBER1 (io), 62 DGND (power), 63 DVDD (io), 64 AVDD (io)
text: GL851; LQFP 64

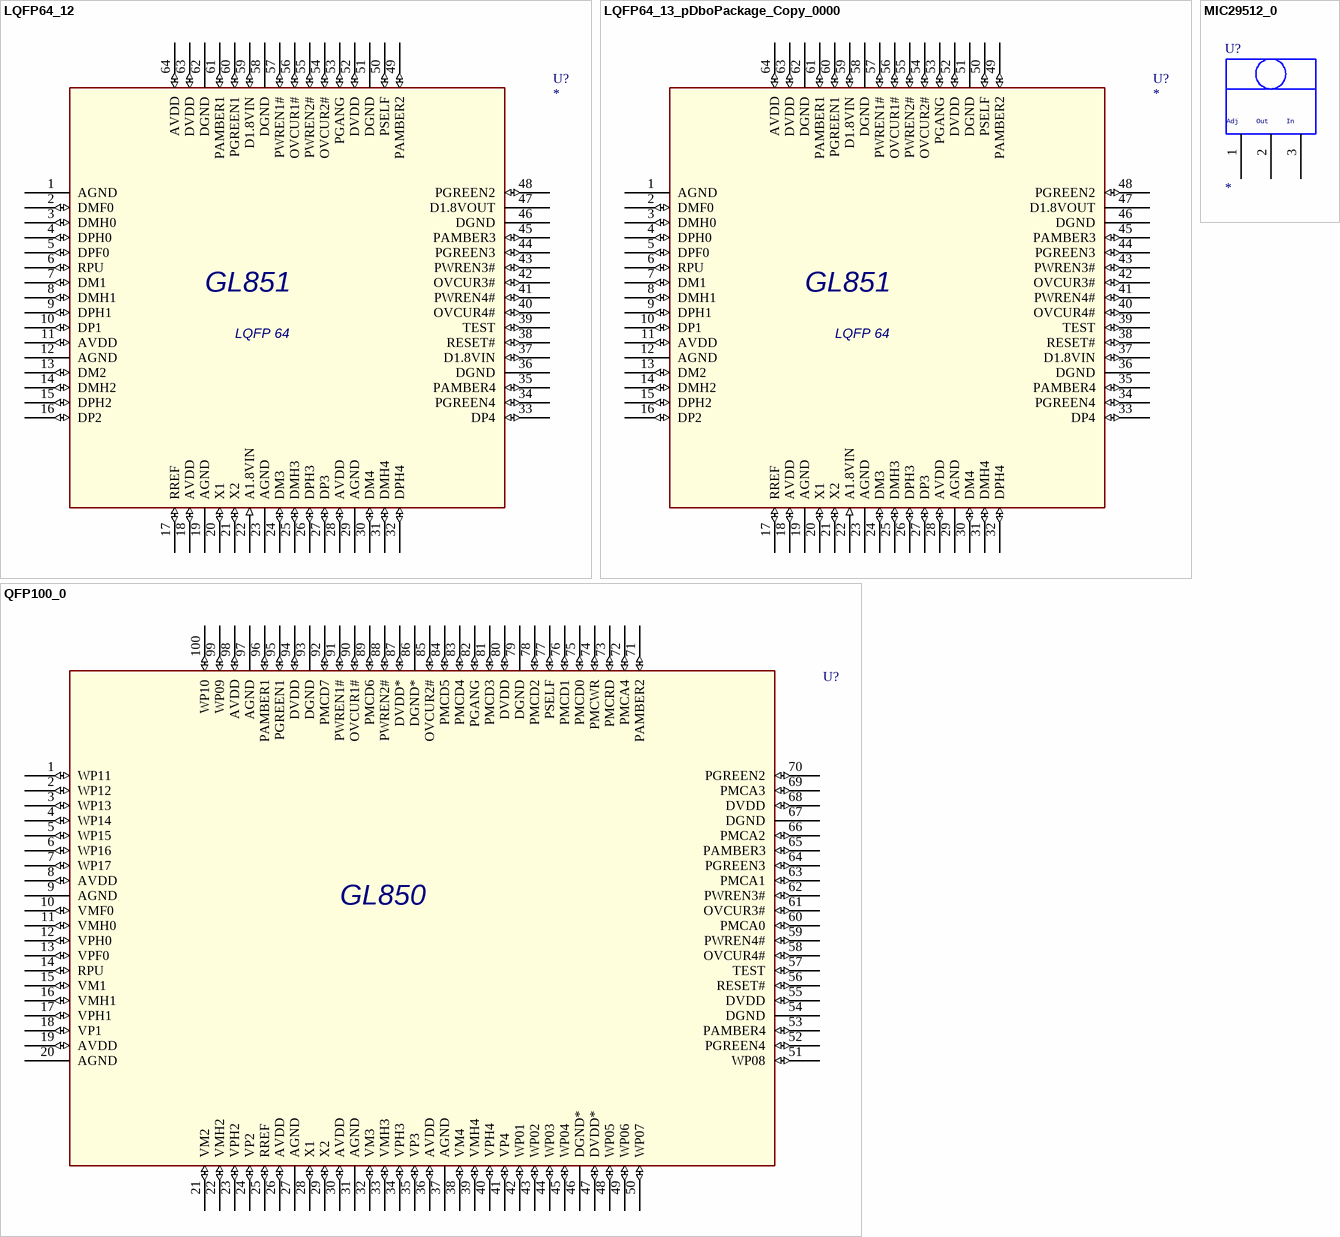
[diagram p8: symbols LQFP64_12 to QFP100_0]

## LQFP64_12
designator U?
pins: 1 AGND (power), 2 DMF0 (io), 3 DMH0 (io), 4 DPH0 (io), 5 DPF0 (io), 6 RPU (io), 7 DM1 (io), 8 DMH1 (io), 9 DPH1 (io), 10 DP1 (io), 11 AVDD (io), 12 AGND (power), 13 DM2 (io), 14 DMH2 (io), 15 DPH2 (io), 16 DP2 (io), 17 RREF (io), 18 AVDD (io), 19 AGND (power), 20 X1 (io), 21 X2 (io), 22 A1.8VIN (in), 23 AGND (power), 24 DM3 (io), 25 DMH3 (io), 26 DPH3 (io), 27 DP3 (io), 28 AVDD (io), 29 AGND (power), 30 DM4 (io), 31 DMH4 (io), 32 DPH4 (io), 33 DP4 (io), 34 PGREEN4 (io), 35 PAMBER4 (io), 36 DGND (power), 37 D1.8VIN (io), 38 RESET# (io), 39 TEST (io), 40 OVCUR4# (io), 41 PWREN4# (io), 42 OVCUR3# (io), 43 PWREN3# (io), 44 PGREEN3 (io), 45 PAMBER3 (io), 46 DGND (power), 47 D1.8VOUT, 48 PGREEN2 (io), 49 PAMBER2 (io), 50 PSELF (io), 51 DGND (power), 52 DVDD (io), 53 PGANG (io), 54 OVCUR2# (io), 55 PWREN2# (io), 56 OVCUR1# (io), 57 PWREN1# (io), 58 DGND (power), 59 D1.8VIN (io), 60 PGREEN1 (io), 61 PAMBER1 (io), 62 DGND (power), 63 DVDD (io), 64 AVDD (io)
text: GL851; LQFP 64

## LQFP64_13_pDboPackage_Copy_0000
designator U?
pins: 1 AGND (power), 2 DMF0 (io), 3 DMH0 (io), 4 DPH0 (io), 5 DPF0 (io), 6 RPU (io), 7 DM1 (io), 8 DMH1 (io), 9 DPH1 (io), 10 DP1 (io), 11 AVDD (io), 12 AGND (power), 13 DM2 (io), 14 DMH2 (io), 15 DPH2 (io), 16 DP2 (io), 17 RREF (io), 18 AVDD (io), 19 AGND (power), 20 X1 (io), 21 X2 (io), 22 A1.8VIN (in), 23 AGND (power), 24 DM3 (io), 25 DMH3 (io), 26 DPH3 (io), 27 DP3 (io), 28 AVDD (io), 29 AGND (power), 30 DM4 (io), 31 DMH4 (io), 32 DPH4 (io), 33 DP4 (io), 34 PGREEN4 (io), 35 PAMBER4 (io), 36 DGND (power), 37 D1.8VIN (io), 38 RESET# (io), 39 TEST (io), 40 OVCUR4# (io), 41 PWREN4# (io), 42 OVCUR3# (io), 43 PWREN3# (io), 44 PGREEN3 (io), 45 PAMBER3 (io), 46 DGND (power), 47 D1.8VOUT, 48 PGREEN2 (io), 49 PAMBER2 (io), 50 PSELF (io), 51 DGND (power), 52 DVDD (io), 53 PGANG (io), 54 OVCUR2# (io), 55 PWREN2# (io), 56 OVCUR1# (io), 57 PWREN1# (io), 58 DGND (power), 59 D1.8VIN (io), 60 PGREEN1 (io), 61 PAMBER1 (io), 62 DGND (power), 63 DVDD (io), 64 AVDD (io)
text: GL851; LQFP 64

## MIC29512_0
designator U?
pins: 1 ADJ/GND, 2 OUT, 3 IN
text: Adj; Out; In

## QFP100_0
designator U?, comment GL850
pins: 1 WP11 (io), 2 WP12 (io), 3 WP13 (io), 4 WP14 (io), 5 WP15 (io), 6 WP16 (io), 7 WP17 (io), 8 AVDD (io), 9 AGND (power), 10 VMF0 (io), 11 VMH0 (io), 12 VPH0 (io), 13 VPF0 (io), 14 RPU (io), 15 VM1 (io), 16 VMH1 (io), 17 VPH1 (io), 18 VP1 (io), 19 AVDD (io), 20 AGND (power), 21 VM2 (io), 22 VMH2 (io), 23 VPH2 (io), 24 VP2 (io), 25 RREF (io), 26 AVDD (io), 27 AGND (power), 28 X1 (io), 29 X2 (io), 30 AVDD (io), 31 AGND (power), 32 VM3 (io), 33 VMH3 (io), 34 VPH3 (io), 35 VP3 (io), 36 AVDD (io), 37 AGND (power), 38 VM4 (io), 39 VMH4 (io), 40 VPH4 (io), 41 VP4 (io), 42 WP01 (io), 43 WP02 (io), 44 WP03 (io), 45 WP04 (io), 46 DGND* (power), 47 DVDD* (io), 48 WP05 (io), 49 WP06 (io), 50 WP07 (io), 51 WP08 (io), 52 PGREEN4 (io), 53 PAMBER4 (io), 54 DGND (power), 55 DVDD (io), 56 RESET# (io), 57 TEST (io), 58 OVCUR4# (io), 59 PWREN4# (io), 60 PMCA0 (io), 61 OVCUR3# (io), 62 PWREN3# (io), 63 PMCA1 (io), 64 PGREEN3 (io), 65 PAMBER3 (io), 66 PMCA2 (io), 67 DGND (power), 68 DVDD (io), 69 PMCA3 (io), 70 PGREEN2 (io), 71 PAMBER2 (io), 72 PMCA4 (io), 73 PMCRD (io), 74 PMCWR (io), 75 PMCD0 (io), 76 PMCD1 (io), 77 PSELF (io), 78 PMCD2 (io), 79 DGND (power), 80 DVDD (io), 81 PMCD3 (io), 82 PGANG (io), 83 PMCD4 (io), 84 PMCD5 (io), 85 OVCUR2# (io), 86 DGND* (power), 87 DVDD* (io), 88 PWREN2# (io), 89 PMCD6 (io), 90 OVCUR1# (io), 91 PWREN1# (io), 92 PMCD7 (io), 93 DGND (power), 94 DVDD (io), 95 PGREEN1 (io), 96 PAMBER1 (io), 97 AGND (power), 98 AVDD (io), 99 WP09 (io), 100 WP10 (io)

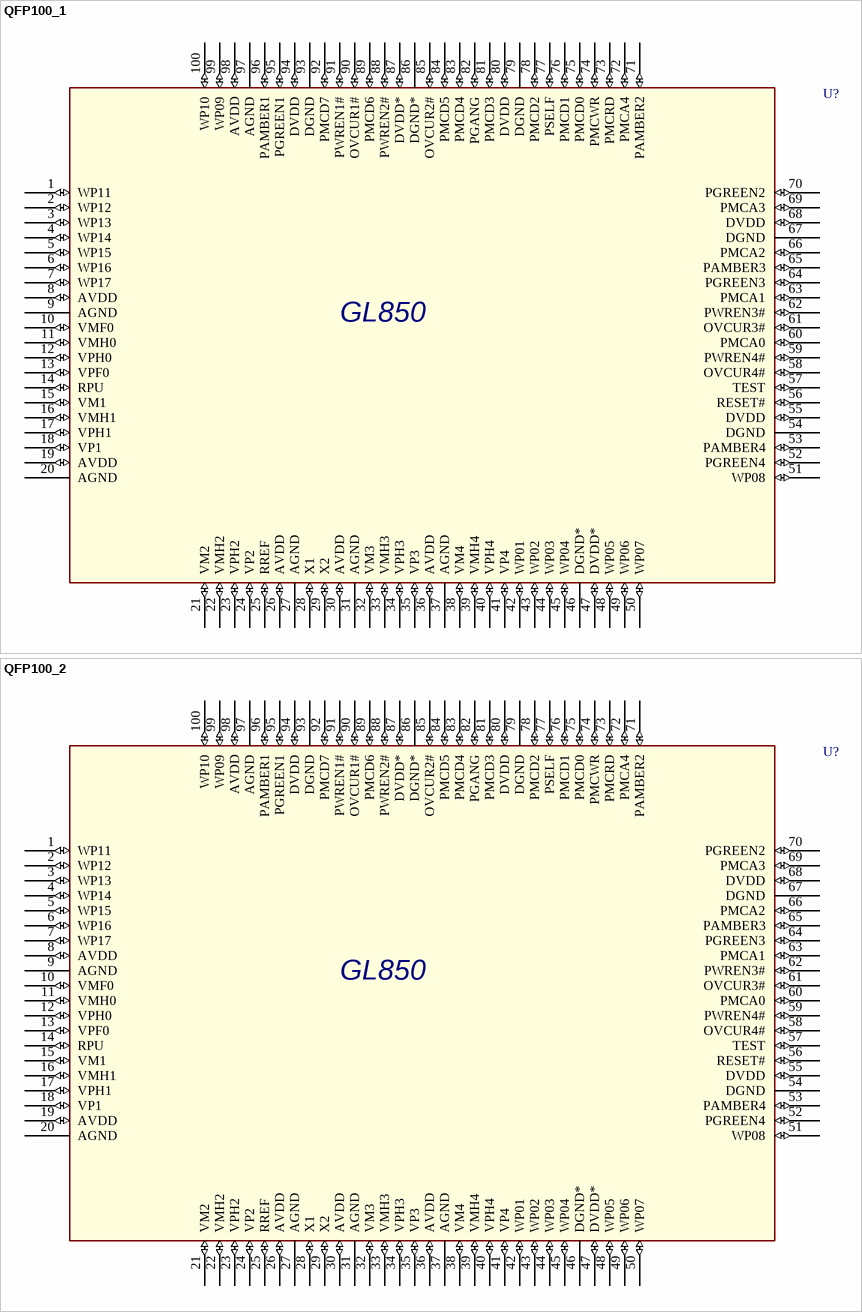
[diagram p9: symbols QFP100_1 to QFP100_2]

## QFP100_1
designator U?, comment GL850
pins: 1 WP11 (io), 2 WP12 (io), 3 WP13 (io), 4 WP14 (io), 5 WP15 (io), 6 WP16 (io), 7 WP17 (io), 8 AVDD (io), 9 AGND (power), 10 VMF0 (io), 11 VMH0 (io), 12 VPH0 (io), 13 VPF0 (io), 14 RPU (io), 15 VM1 (io), 16 VMH1 (io), 17 VPH1 (io), 18 VP1 (io), 19 AVDD (io), 20 AGND (power), 21 VM2 (io), 22 VMH2 (io), 23 VPH2 (io), 24 VP2 (io), 25 RREF (io), 26 AVDD (io), 27 AGND (power), 28 X1 (io), 29 X2 (io), 30 AVDD (io), 31 AGND (power), 32 VM3 (io), 33 VMH3 (io), 34 VPH3 (io), 35 VP3 (io), 36 AVDD (io), 37 AGND (power), 38 VM4 (io), 39 VMH4 (io), 40 VPH4 (io), 41 VP4 (io), 42 WP01 (io), 43 WP02 (io), 44 WP03 (io), 45 WP04 (io), 46 DGND* (power), 47 DVDD* (io), 48 WP05 (io), 49 WP06 (io), 50 WP07 (io), 51 WP08 (io), 52 PGREEN4 (io), 53 PAMBER4 (io), 54 DGND (power), 55 DVDD (io), 56 RESET# (io), 57 TEST (io), 58 OVCUR4# (io), 59 PWREN4# (io), 60 PMCA0 (io), 61 OVCUR3# (io), 62 PWREN3# (io), 63 PMCA1 (io), 64 PGREEN3 (io), 65 PAMBER3 (io), 66 PMCA2 (io), 67 DGND (power), 68 DVDD (io), 69 PMCA3 (io), 70 PGREEN2 (io), 71 PAMBER2 (io), 72 PMCA4 (io), 73 PMCRD (io), 74 PMCWR (io), 75 PMCD0 (io), 76 PMCD1 (io), 77 PSELF (io), 78 PMCD2 (io), 79 DGND (power), 80 DVDD (io), 81 PMCD3 (io), 82 PGANG (io), 83 PMCD4 (io), 84 PMCD5 (io), 85 OVCUR2# (io), 86 DGND* (power), 87 DVDD* (io), 88 PWREN2# (io), 89 PMCD6 (io), 90 OVCUR1# (io), 91 PWREN1# (io), 92 PMCD7 (io), 93 DGND (power), 94 DVDD (io), 95 PGREEN1 (io), 96 PAMBER1 (io), 97 AGND (power), 98 AVDD (io), 99 WP09 (io), 100 WP10 (io)

## QFP100_2
designator U?, comment GL850  (value not drawn)
pins: 1 WP11 (io), 2 WP12 (io), 3 WP13 (io), 4 WP14 (io), 5 WP15 (io), 6 WP16 (io), 7 WP17 (io), 8 AVDD (io), 9 AGND (power), 10 VMF0 (io), 11 VMH0 (io), 12 VPH0 (io), 13 VPF0 (io), 14 RPU (io), 15 VM1 (io), 16 VMH1 (io), 17 VPH1 (io), 18 VP1 (io), 19 AVDD (io), 20 AGND (power), 21 VM2 (io), 22 VMH2 (io), 23 VPH2 (io), 24 VP2 (io), 25 RREF (io), 26 AVDD (io), 27 AGND (power), 28 X1 (io), 29 X2 (io), 30 AVDD (io), 31 AGND (power), 32 VM3 (io), 33 VMH3 (io), 34 VPH3 (io), 35 VP3 (io), 36 AVDD (io), 37 AGND (power), 38 VM4 (io), 39 VMH4 (io), 40 VPH4 (io), 41 VP4 (io), 42 WP01 (io), 43 WP02 (io), 44 WP03 (io), 45 WP04 (io), 46 DGND* (power), 47 DVDD* (io), 48 WP05 (io), 49 WP06 (io), 50 WP07 (io), 51 WP08 (io), 52 PGREEN4 (io), 53 PAMBER4 (io), 54 DGND (power), 55 DVDD (io), 56 RESET# (io), 57 TEST (io), 58 OVCUR4# (io), 59 PWREN4# (io), 60 PMCA0 (io), 61 OVCUR3# (io), 62 PWREN3# (io), 63 PMCA1 (io), 64 PGREEN3 (io), 65 PAMBER3 (io), 66 PMCA2 (io), 67 DGND (power), 68 DVDD (io), 69 PMCA3 (io), 70 PGREEN2 (io), 71 PAMBER2 (io), 72 PMCA4 (io), 73 PMCRD (io), 74 PMCWR (io), 75 PMCD0 (io), 76 PMCD1 (io), 77 PSELF (io), 78 PMCD2 (io), 79 DGND (power), 80 DVDD (io), 81 PMCD3 (io), 82 PGANG (io), 83 PMCD4 (io), 84 PMCD5 (io), 85 OVCUR2# (io), 86 DGND* (power), 87 DVDD* (io), 88 PWREN2# (io), 89 PMCD6 (io), 90 OVCUR1# (io), 91 PWREN1# (io), 92 PMCD7 (io), 93 DGND (power), 94 DVDD (io), 95 PGREEN1 (io), 96 PAMBER1 (io), 97 AGND (power), 98 AVDD (io), 99 WP09 (io), 100 WP10 (io)

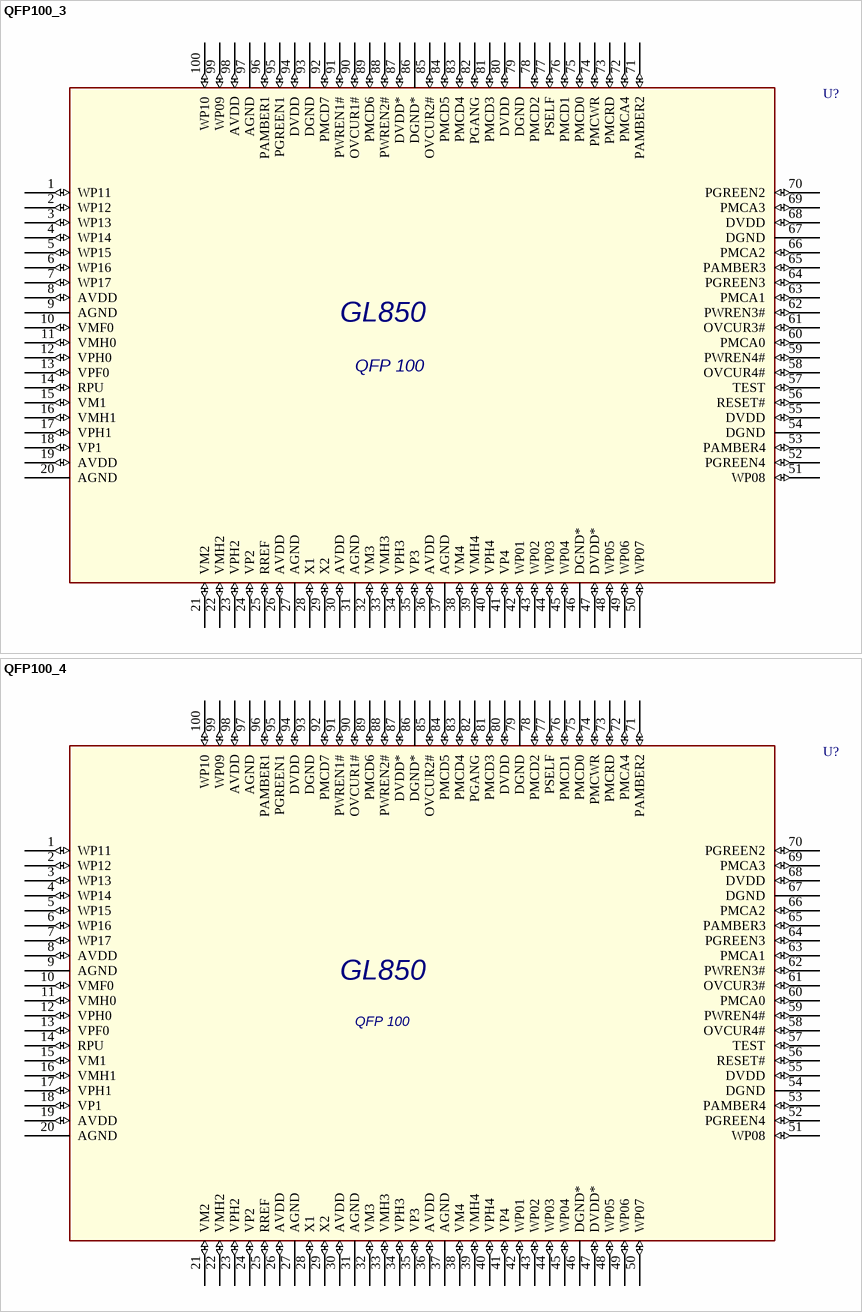
[diagram p10: symbols QFP100_3 to QFP100_4]

## QFP100_3
designator U?, comment GL850  (value not drawn)
pins: 1 WP11 (io), 2 WP12 (io), 3 WP13 (io), 4 WP14 (io), 5 WP15 (io), 6 WP16 (io), 7 WP17 (io), 8 AVDD (io), 9 AGND (power), 10 VMF0 (io), 11 VMH0 (io), 12 VPH0 (io), 13 VPF0 (io), 14 RPU (io), 15 VM1 (io), 16 VMH1 (io), 17 VPH1 (io), 18 VP1 (io), 19 AVDD (io), 20 AGND (power), 21 VM2 (io), 22 VMH2 (io), 23 VPH2 (io), 24 VP2 (io), 25 RREF (io), 26 AVDD (io), 27 AGND (power), 28 X1 (io), 29 X2 (io), 30 AVDD (io), 31 AGND (power), 32 VM3 (io), 33 VMH3 (io), 34 VPH3 (io), 35 VP3 (io), 36 AVDD (io), 37 AGND (power), 38 VM4 (io), 39 VMH4 (io), 40 VPH4 (io), 41 VP4 (io), 42 WP01 (io), 43 WP02 (io), 44 WP03 (io), 45 WP04 (io), 46 DGND* (power), 47 DVDD* (io), 48 WP05 (io), 49 WP06 (io), 50 WP07 (io), 51 WP08 (io), 52 PGREEN4 (io), 53 PAMBER4 (io), 54 DGND (power), 55 DVDD (io), 56 RESET# (io), 57 TEST (io), 58 OVCUR4# (io), 59 PWREN4# (io), 60 PMCA0 (io), 61 OVCUR3# (io), 62 PWREN3# (io), 63 PMCA1 (io), 64 PGREEN3 (io), 65 PAMBER3 (io), 66 PMCA2 (io), 67 DGND (power), 68 DVDD (io), 69 PMCA3 (io), 70 PGREEN2 (io), 71 PAMBER2 (io), 72 PMCA4 (io), 73 PMCRD (io), 74 PMCWR (io), 75 PMCD0 (io), 76 PMCD1 (io), 77 PSELF (io), 78 PMCD2 (io), 79 DGND (power), 80 DVDD (io), 81 PMCD3 (io), 82 PGANG (io), 83 PMCD4 (io), 84 PMCD5 (io), 85 OVCUR2# (io), 86 DGND* (power), 87 DVDD* (io), 88 PWREN2# (io), 89 PMCD6 (io), 90 OVCUR1# (io), 91 PWREN1# (io), 92 PMCD7 (io), 93 DGND (power), 94 DVDD (io), 95 PGREEN1 (io), 96 PAMBER1 (io), 97 AGND (power), 98 AVDD (io), 99 WP09 (io), 100 WP10 (io)
text: QFP 100

## QFP100_4
designator U?, comment GL850  (value not drawn)
pins: 1 WP11 (io), 2 WP12 (io), 3 WP13 (io), 4 WP14 (io), 5 WP15 (io), 6 WP16 (io), 7 WP17 (io), 8 AVDD (io), 9 AGND (power), 10 VMF0 (io), 11 VMH0 (io), 12 VPH0 (io), 13 VPF0 (io), 14 RPU (io), 15 VM1 (io), 16 VMH1 (io), 17 VPH1 (io), 18 VP1 (io), 19 AVDD (io), 20 AGND (power), 21 VM2 (io), 22 VMH2 (io), 23 VPH2 (io), 24 VP2 (io), 25 RREF (io), 26 AVDD (io), 27 AGND (power), 28 X1 (io), 29 X2 (io), 30 AVDD (io), 31 AGND (power), 32 VM3 (io), 33 VMH3 (io), 34 VPH3 (io), 35 VP3 (io), 36 AVDD (io), 37 AGND (power), 38 VM4 (io), 39 VMH4 (io), 40 VPH4 (io), 41 VP4 (io), 42 WP01 (io), 43 WP02 (io), 44 WP03 (io), 45 WP04 (io), 46 DGND* (power), 47 DVDD* (io), 48 WP05 (io), 49 WP06 (io), 50 WP07 (io), 51 WP08 (io), 52 PGREEN4 (io), 53 PAMBER4 (io), 54 DGND (power), 55 DVDD (io), 56 RESET# (io), 57 TEST (io), 58 OVCUR4# (io), 59 PWREN4# (io), 60 PMCA0 (io), 61 OVCUR3# (io), 62 PWREN3# (io), 63 PMCA1 (io), 64 PGREEN3 (io), 65 PAMBER3 (io), 66 PMCA2 (io), 67 DGND (power), 68 DVDD (io), 69 PMCA3 (io), 70 PGREEN2 (io), 71 PAMBER2 (io), 72 PMCA4 (io), 73 PMCRD (io), 74 PMCWR (io), 75 PMCD0 (io), 76 PMCD1 (io), 77 PSELF (io), 78 PMCD2 (io), 79 DGND (power), 80 DVDD (io), 81 PMCD3 (io), 82 PGANG (io), 83 PMCD4 (io), 84 PMCD5 (io), 85 OVCUR2# (io), 86 DGND* (power), 87 DVDD* (io), 88 PWREN2# (io), 89 PMCD6 (io), 90 OVCUR1# (io), 91 PWREN1# (io), 92 PMCD7 (io), 93 DGND (power), 94 DVDD (io), 95 PGREEN1 (io), 96 PAMBER1 (io), 97 AGND (power), 98 AVDD (io), 99 WP09 (io), 100 WP10 (io)
text: QFP 100

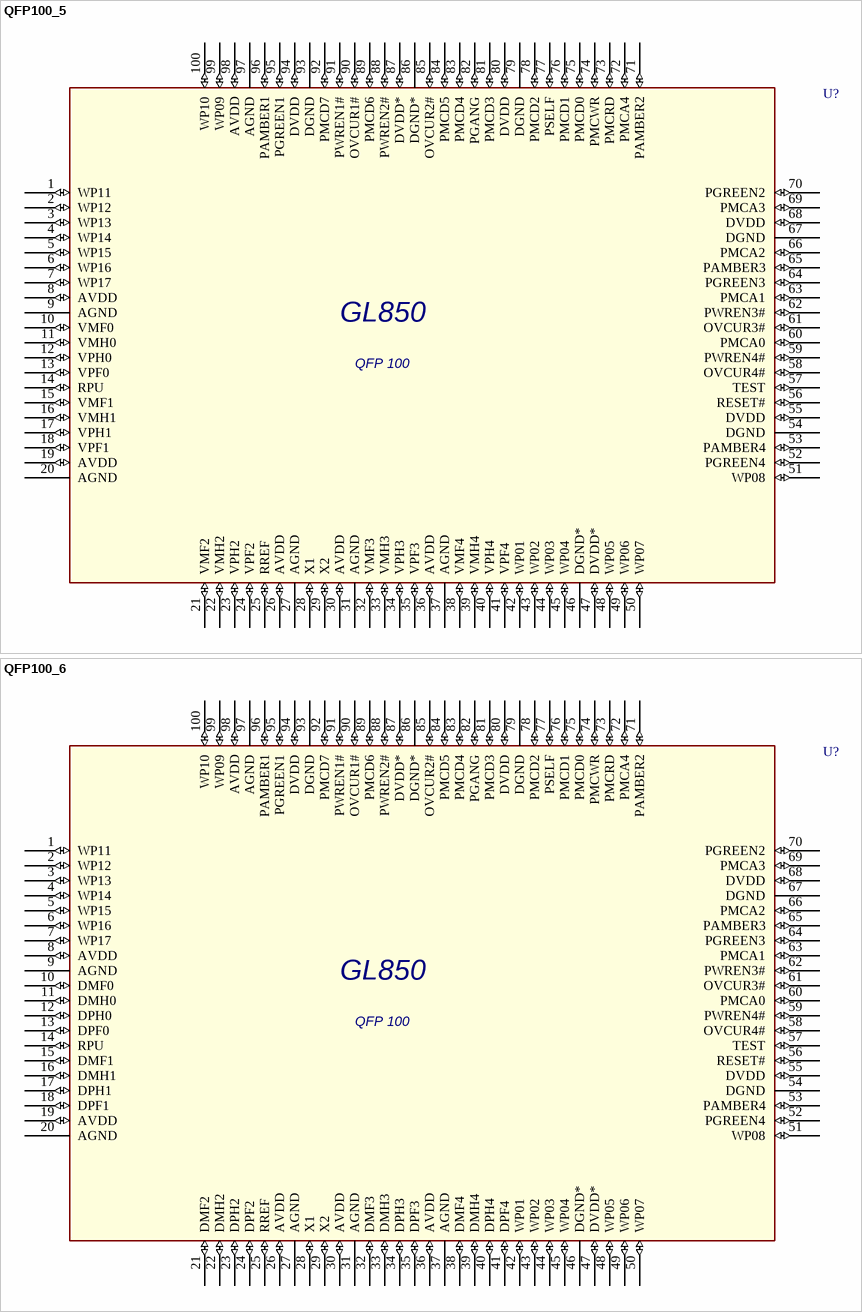
[diagram p11: symbols QFP100_5 to QFP100_6]

## QFP100_5
designator U?, comment GL850  (value not drawn)
pins: 1 WP11 (io), 2 WP12 (io), 3 WP13 (io), 4 WP14 (io), 5 WP15 (io), 6 WP16 (io), 7 WP17 (io), 8 AVDD (io), 9 AGND (power), 10 VMF0 (io), 11 VMH0 (io), 12 VPH0 (io), 13 VPF0 (io), 14 RPU (io), 15 VMF1 (io), 16 VMH1 (io), 17 VPH1 (io), 18 VPF1 (io), 19 AVDD (io), 20 AGND (power), 21 VMF2 (io), 22 VMH2 (io), 23 VPH2 (io), 24 VPF2 (io), 25 RREF (io), 26 AVDD (io), 27 AGND (power), 28 X1 (io), 29 X2 (io), 30 AVDD (io), 31 AGND (power), 32 VMF3 (io), 33 VMH3 (io), 34 VPH3 (io), 35 VPF3 (io), 36 AVDD (io), 37 AGND (power), 38 VMF4 (io), 39 VMH4 (io), 40 VPH4 (io), 41 VPF4 (io), 42 WP01 (io), 43 WP02 (io), 44 WP03 (io), 45 WP04 (io), 46 DGND* (power), 47 DVDD* (io), 48 WP05 (io), 49 WP06 (io), 50 WP07 (io), 51 WP08 (io), 52 PGREEN4 (io), 53 PAMBER4 (io), 54 DGND (power), 55 DVDD (io), 56 RESET# (io), 57 TEST (io), 58 OVCUR4# (io), 59 PWREN4# (io), 60 PMCA0 (io), 61 OVCUR3# (io), 62 PWREN3# (io), 63 PMCA1 (io), 64 PGREEN3 (io), 65 PAMBER3 (io), 66 PMCA2 (io), 67 DGND (power), 68 DVDD (io), 69 PMCA3 (io), 70 PGREEN2 (io), 71 PAMBER2 (io), 72 PMCA4 (io), 73 PMCRD (io), 74 PMCWR (io), 75 PMCD0 (io), 76 PMCD1 (io), 77 PSELF (io), 78 PMCD2 (io), 79 DGND (power), 80 DVDD (io), 81 PMCD3 (io), 82 PGANG (io), 83 PMCD4 (io), 84 PMCD5 (io), 85 OVCUR2# (io), 86 DGND* (power), 87 DVDD* (io), 88 PWREN2# (io), 89 PMCD6 (io), 90 OVCUR1# (io), 91 PWREN1# (io), 92 PMCD7 (io), 93 DGND (power), 94 DVDD (io), 95 PGREEN1 (io), 96 PAMBER1 (io), 97 AGND (power), 98 AVDD (io), 99 WP09 (io), 100 WP10 (io)
text: QFP 100

## QFP100_6
designator U?, comment GL850  (value not drawn)
pins: 1 WP11 (io), 2 WP12 (io), 3 WP13 (io), 4 WP14 (io), 5 WP15 (io), 6 WP16 (io), 7 WP17 (io), 8 AVDD (io), 9 AGND (power), 10 DMF0 (io), 11 DMH0 (io), 12 DPH0 (io), 13 DPF0 (io), 14 RPU (io), 15 DMF1 (io), 16 DMH1 (io), 17 DPH1 (io), 18 DPF1 (io), 19 AVDD (io), 20 AGND (power), 21 DMF2 (io), 22 DMH2 (io), 23 DPH2 (io), 24 DPF2 (io), 25 RREF (io), 26 AVDD (io), 27 AGND (power), 28 X1 (io), 29 X2 (io), 30 AVDD (io), 31 AGND (power), 32 DMF3 (io), 33 DMH3 (io), 34 DPH3 (io), 35 DPF3 (io), 36 AVDD (io), 37 AGND (power), 38 DMF4 (io), 39 DMH4 (io), 40 DPH4 (io), 41 DPF4 (io), 42 WP01 (io), 43 WP02 (io), 44 WP03 (io), 45 WP04 (io), 46 DGND* (power), 47 DVDD* (io), 48 WP05 (io), 49 WP06 (io), 50 WP07 (io), 51 WP08 (io), 52 PGREEN4 (io), 53 PAMBER4 (io), 54 DGND (power), 55 DVDD (io), 56 RESET# (io), 57 TEST (io), 58 OVCUR4# (io), 59 PWREN4# (io), 60 PMCA0 (io), 61 OVCUR3# (io), 62 PWREN3# (io), 63 PMCA1 (io), 64 PGREEN3 (io), 65 PAMBER3 (io), 66 PMCA2 (io), 67 DGND (power), 68 DVDD (io), 69 PMCA3 (io), 70 PGREEN2 (io), 71 PAMBER2 (io), 72 PMCA4 (io), 73 PMCRD (io), 74 PMCWR (io), 75 PMCD0 (io), 76 PMCD1 (io), 77 PSELF (io), 78 PMCD2 (io), 79 DGND (power), 80 DVDD (io), 81 PMCD3 (io), 82 PGANG (io), 83 PMCD4 (io), 84 PMCD5 (io), 85 OVCUR2# (io), 86 DGND* (power), 87 DVDD* (io), 88 PWREN2# (io), 89 PMCD6 (io), 90 OVCUR1# (io), 91 PWREN1# (io), 92 PMCD7 (io), 93 DGND (power), 94 DVDD (io), 95 PGREEN1 (io), 96 PAMBER1 (io), 97 AGND (power), 98 AVDD (io), 99 WP09 (io), 100 WP10 (io)
text: QFP 100

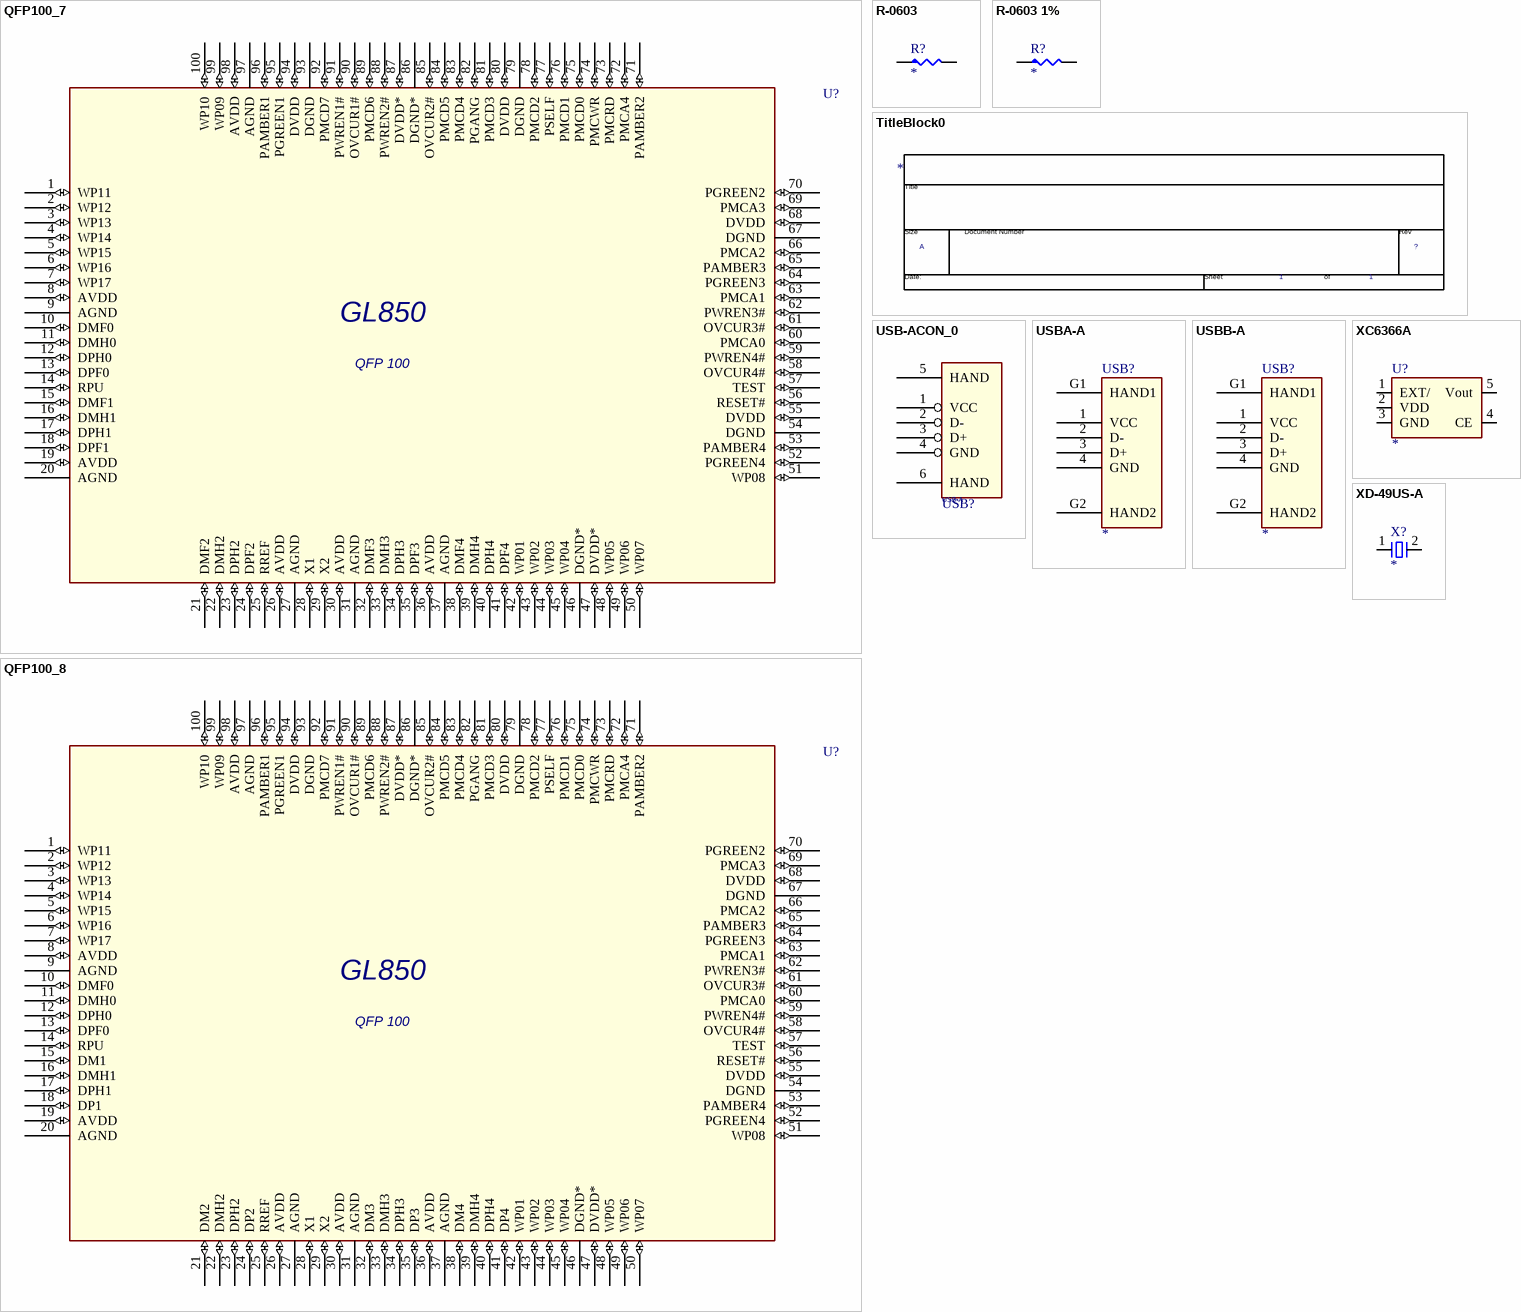
[diagram p12: symbols QFP100_7 to XD-49US-A]

## QFP100_7
designator U?, comment GL850  (value not drawn)
pins: 1 WP11 (io), 2 WP12 (io), 3 WP13 (io), 4 WP14 (io), 5 WP15 (io), 6 WP16 (io), 7 WP17 (io), 8 AVDD (io), 9 AGND (power), 10 DMF0 (io), 11 DMH0 (io), 12 DPH0 (io), 13 DPF0 (io), 14 RPU (io), 15 DMF1 (io), 16 DMH1 (io), 17 DPH1 (io), 18 DPF1 (io), 19 AVDD (io), 20 AGND (power), 21 DMF2 (io), 22 DMH2 (io), 23 DPH2 (io), 24 DPF2 (io), 25 RREF (io), 26 AVDD (io), 27 AGND (power), 28 X1 (io), 29 X2 (io), 30 AVDD (io), 31 AGND (power), 32 DMF3 (io), 33 DMH3 (io), 34 DPH3 (io), 35 DPF3 (io), 36 AVDD (io), 37 AGND (power), 38 DMF4 (io), 39 DMH4 (io), 40 DPH4 (io), 41 DPF4 (io), 42 WP01 (io), 43 WP02 (io), 44 WP03 (io), 45 WP04 (io), 46 DGND* (power), 47 DVDD* (io), 48 WP05 (io), 49 WP06 (io), 50 WP07 (io), 51 WP08 (io), 52 PGREEN4 (io), 53 PAMBER4 (io), 54 DGND (power), 55 DVDD (io), 56 RESET# (io), 57 TEST (io), 58 OVCUR4# (io), 59 PWREN4# (io), 60 PMCA0 (io), 61 OVCUR3# (io), 62 PWREN3# (io), 63 PMCA1 (io), 64 PGREEN3 (io), 65 PAMBER3 (io), 66 PMCA2 (io), 67 DGND (power), 68 DVDD (io), 69 PMCA3 (io), 70 PGREEN2 (io), 71 PAMBER2 (io), 72 PMCA4 (io), 73 PMCRD (io), 74 PMCWR (io), 75 PMCD0 (io), 76 PMCD1 (io), 77 PSELF (io), 78 PMCD2 (io), 79 DGND (power), 80 DVDD (io), 81 PMCD3 (io), 82 PGANG (io), 83 PMCD4 (io), 84 PMCD5 (io), 85 OVCUR2# (io), 86 DGND* (power), 87 DVDD* (io), 88 PWREN2# (io), 89 PMCD6 (io), 90 OVCUR1# (io), 91 PWREN1# (io), 92 PMCD7 (io), 93 DGND (power), 94 DVDD (io), 95 PGREEN1 (io), 96 PAMBER1 (io), 97 AGND (power), 98 AVDD (io), 99 WP09 (io), 100 WP10 (io)
text: QFP 100

## QFP100_8
designator U?, comment GL850  (value not drawn)
pins: 1 WP11 (io), 2 WP12 (io), 3 WP13 (io), 4 WP14 (io), 5 WP15 (io), 6 WP16 (io), 7 WP17 (io), 8 AVDD (io), 9 AGND (power), 10 DMF0 (io), 11 DMH0 (io), 12 DPH0 (io), 13 DPF0 (io), 14 RPU (io), 15 DM1 (io), 16 DMH1 (io), 17 DPH1 (io), 18 DP1 (io), 19 AVDD (io), 20 AGND (power), 21 DM2 (io), 22 DMH2 (io), 23 DPH2 (io), 24 DP2 (io), 25 RREF (io), 26 AVDD (io), 27 AGND (power), 28 X1 (io), 29 X2 (io), 30 AVDD (io), 31 AGND (power), 32 DM3 (io), 33 DMH3 (io), 34 DPH3 (io), 35 DP3 (io), 36 AVDD (io), 37 AGND (power), 38 DM4 (io), 39 DMH4 (io), 40 DPH4 (io), 41 DP4 (io), 42 WP01 (io), 43 WP02 (io), 44 WP03 (io), 45 WP04 (io), 46 DGND* (power), 47 DVDD* (io), 48 WP05 (io), 49 WP06 (io), 50 WP07 (io), 51 WP08 (io), 52 PGREEN4 (io), 53 PAMBER4 (io), 54 DGND (power), 55 DVDD (io), 56 RESET# (io), 57 TEST (io), 58 OVCUR4# (io), 59 PWREN4# (io), 60 PMCA0 (io), 61 OVCUR3# (io), 62 PWREN3# (io), 63 PMCA1 (io), 64 PGREEN3 (io), 65 PAMBER3 (io), 66 PMCA2 (io), 67 DGND (power), 68 DVDD (io), 69 PMCA3 (io), 70 PGREEN2 (io), 71 PAMBER2 (io), 72 PMCA4 (io), 73 PMCRD (io), 74 PMCWR (io), 75 PMCD0 (io), 76 PMCD1 (io), 77 PSELF (io), 78 PMCD2 (io), 79 DGND (power), 80 DVDD (io), 81 PMCD3 (io), 82 PGANG (io), 83 PMCD4 (io), 84 PMCD5 (io), 85 OVCUR2# (io), 86 DGND* (power), 87 DVDD* (io), 88 PWREN2# (io), 89 PMCD6 (io), 90 OVCUR1# (io), 91 PWREN1# (io), 92 PMCD7 (io), 93 DGND (power), 94 DVDD (io), 95 PGREEN1 (io), 96 PAMBER1 (io), 97 AGND (power), 98 AVDD (io), 99 WP09 (io), 100 WP10 (io)
text: QFP 100

## R-0603
designator R?
footprint RS-0603
pins: 1, 2

## R-0603 1%
designator R?
footprint RS-0603
pins: 1, 2

## TitleBlock0
designator *  Page Count: 1  Page Size: A  (graphical)
Page Number: 1; RevCode: ?; Page Create Date: March  8, 1995
text: Title; Size; Document Number; Rev; Date:; Sheet; of

## USB-ACON_0
designator USB?, comment USB-A
pins: 1 VCC (power), 2 D-, 3 D+, 4 GND (power), 5 HAND, 6 HAND

## USBA-A
designator USB?
footprint CND-USBA-A
pins: 1 VCC, 2 D-, 3 D+, 4 GND, G1 HAND1, G2 HAND2

## USBB-A
designator USB?
footprint CND-USBB-A
pins: 1 VCC, 2 D-, 3 D+, 4 GND, G1 HAND1, G2 HAND2

## XC6366A
designator U?
footprint I-SOT23-5A
pins: 1 EXT/, 2 VDD, 3 GND, 4 CE, 5 Vout